# Altium schematic symbol library MCUs.SchLib: 48 symbols (part 1 of 3)
Pins are listed as number, name and electrical type; pins without a type are passive.

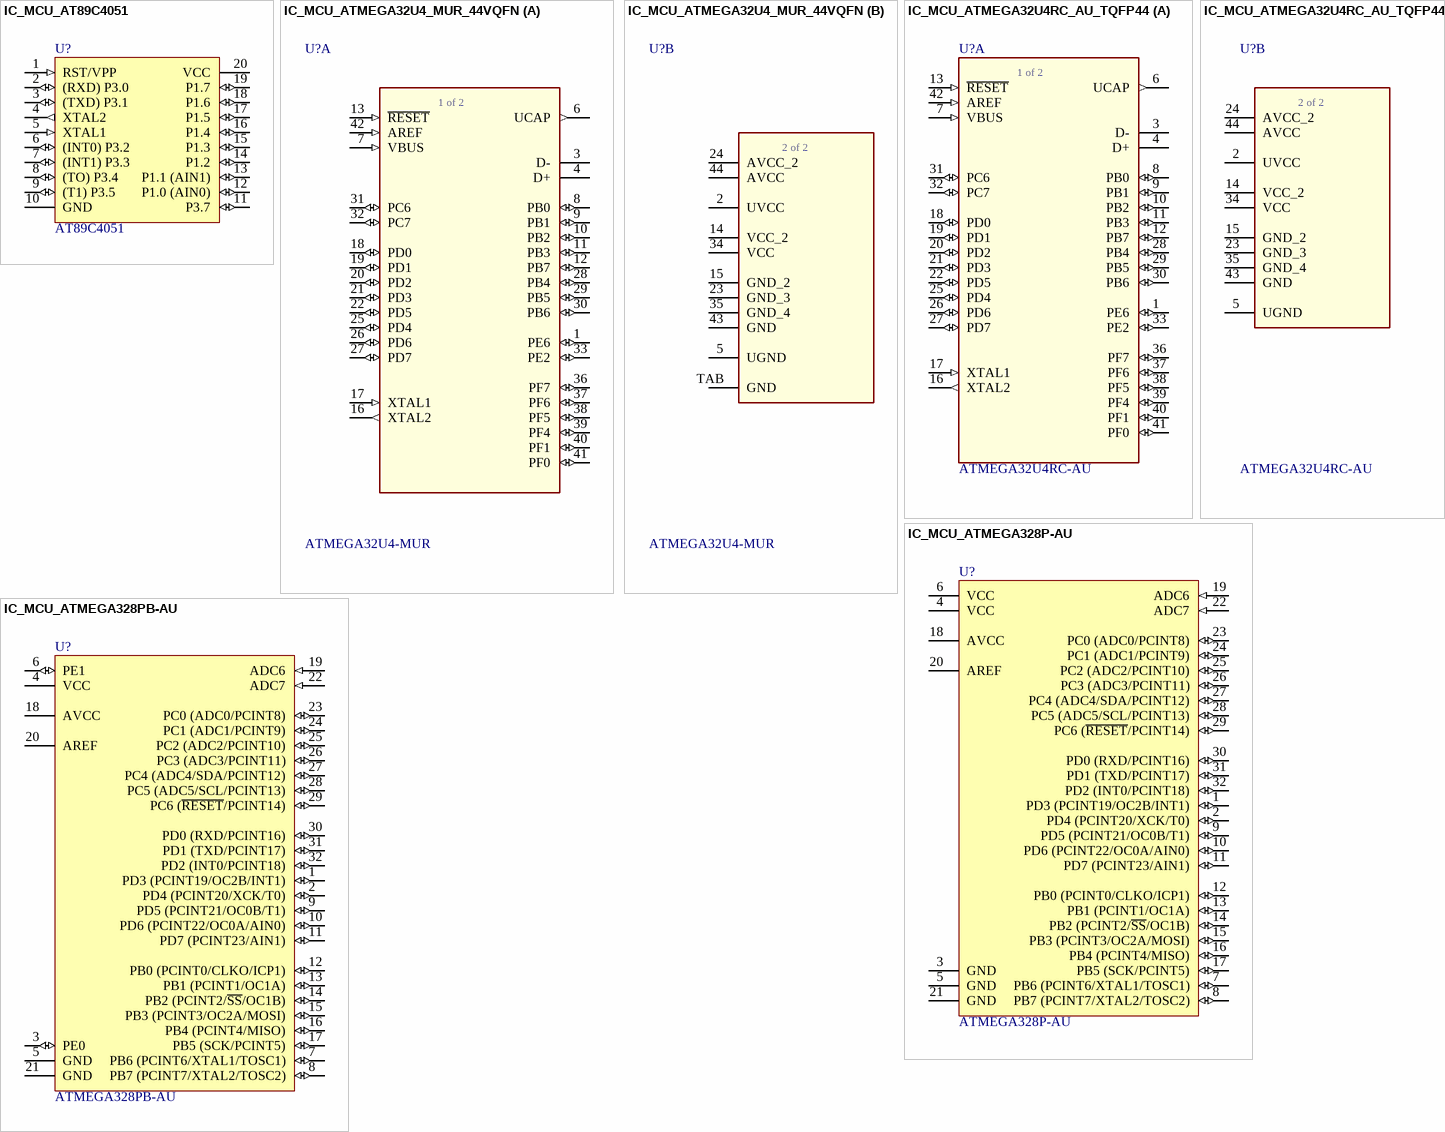
[diagram p0: symbols IC_MCU_AT89C4051 to IC_MCU_ATMEGA328PB-AU]

## IC_MCU_AT89C4051
designator U?, comment AT89C4051
IC MCU 8BIT 4KB FLASH 20SOIC; Manufacturer: Microchip Technology; Manufacturer Part Number: AT89C4051-24SU; Supplier 1: Digi-Key; Supplier Part Number 1: AT89C4051-24SU-ND; Reel Stock: N/A; Last modified by: J.Jaramillo; Last modified date: 20240310; ComponentLink1Description: Digi-Key; ComponentLink1URL: https://www.digikey.com/en/products/detail/microchip-technology/AT89C4051-24SU/1118883?s=N4IgTCBcDaIIIBUAcBOAwgFgAwFYCMAtGBgMoCqBAcgCIgC6AvkA
footprint SOIC_20_12.8X7.5MM (20-SOIC / 0190221 / H-D.Garcia)
pins: 1 RST/VPP (in), 2 (RXD) P3.0 (io), 3 (TXD) P3.1 (io), 4 XTAL2 (out), 5 XTAL1 (in), 6 (INT0) P3.2 (io), 7 (INT1) P3.3 (io), 8 (TO) P3.4 (io), 9 (T1) P3.5 (io), 10 GND (power), 11 P3.7 (io), 12 P1.0 (AIN0) (io), 13 P1.1 (AIN1) (io), 14 P1.2 (io), 15 P1.3 (io), 16 P1.4 (io), 17 P1.5 (io), 18 P1.6 (io), 19 P1.7 (io), 20 VCC (power)

## IC_MCU_ATMEGA32U4_MUR_44VQFN
designator U?, comment ATMEGA32U4-MUR
IC MCU 8BIT 32KB FLASH 44VQFN; Manufacturer: Microchip Technology; Manufacturer Part Number: ATMEGA32U4-MUR; Supplier 1: Digi-Key; Supplier Part Number 1: ATMEGA32U4-MURCT-ND; Reel Stock: N/A; Last modified by: J.Jaramillo; Last modified date: 20240310; ComponentLink1Description: Digi-key; ComponentLink1URL: https://www.digikey.com/en/products/detail/microchip-technology/ATMEGA32U4-MUR/2238242
footprint VQFN_44_7x7mm (44-VQFN  / 20230220 / N-A.Potosi)
part A pins: 1 PE6 (io), 3 D-, 4 D+, 6 UCAP (out), 7 VBUS (in), 8 PB0 (io), 9 PB1 (io), 10 PB2 (io), 11 PB3 (io), 12 PB7 (io), 13 ~{RESET} (in), 16 XTAL2 (out), 17 XTAL1 (in), 18 PD0 (io), 19 PD1 (io), 20 PD2 (io), 21 PD3 (io), 22 PD5 (io), 25 PD4 (io), 26 PD6 (io), 27 PD7 (io), 28 PB4 (io), 29 PB5 (io), 30 PB6 (io), 31 PC6 (io), 32 PC7 (io), 33 PE2 (io), 36 PF7 (io), 37 PF6 (io), 38 PF5 (io), 39 PF4 (io), 40 PF1 (io), 41 PF0 (io), 42 AREF (in)
part B pins: 2 UVCC (power), 5 UGND (power), 14 VCC_2 (power), 15 GND_2 (power), 23 GND_3 (power), 24 AVCC_2 (power), 34 VCC (power), 35 GND_4 (power), 43 GND (power), 44 AVCC (power), TAB GND
part A text: 1 of 2
part B text: 2 of 2

## IC_MCU_ATMEGA32U4RC_AU_TQFP44
designator U?, comment ATMEGA32U4RC-AU
IC MCU 8BIT 32KB FLASH 44TQFP; Manufacturer: Microchip Technology; Manufacturer Part Number: ATMEGA32U4RC-AU; Supplier 1: Digi-Key; Supplier Part Number 1: ATMEGA32U4RC-AU-ND; Reel Stock: N/A; Last modified by: J.Jaramillo; Last modified date: 20240310; ComponentLink1Description: Digi-key; ComponentLink1URL: https://www.digikey.com/en/products/detail/microchip-technology/ATMEGA32U4RC-AU/2507982
footprint TQFP_44_10X10MM (/20230220/N-A.Potosi)
part A pins: 1 PE6 (io), 3 D-, 4 D+, 6 UCAP (out), 7 VBUS (in), 8 PB0 (io), 9 PB1 (io), 10 PB2 (io), 11 PB3 (io), 12 PB7 (io), 13 ~{RESET} (in), 16 XTAL2 (out), 17 XTAL1 (in), 18 PD0 (io), 19 PD1 (io), 20 PD2 (io), 21 PD3 (io), 22 PD5 (io), 25 PD4 (io), 26 PD6 (io), 27 PD7 (io), 28 PB4 (io), 29 PB5 (io), 30 PB6 (io), 31 PC6 (io), 32 PC7 (io), 33 PE2 (io), 36 PF7 (io), 37 PF6 (io), 38 PF5 (io), 39 PF4 (io), 40 PF1 (io), 41 PF0 (io), 42 AREF (in)
part B pins: 2 UVCC (power), 5 UGND (power), 14 VCC_2 (power), 15 GND_2 (power), 23 GND_3 (power), 24 AVCC_2 (power), 34 VCC (power), 35 GND_4 (power), 43 GND (power), 44 AVCC (power)
part A text: 1 of 2
part B text: 2 of 2

## IC_MCU_ATMEGA328P-AU
designator U?, comment ATMEGA328P-AU
IC MCU 8BIT 32KB FLASH 32TQFP; Manufacturer: Microchip Technology; Manufacturer Part Number: ATMEGA328P-AU; Supplier 1: Digi-Key; Supplier Part Number 1: ATMEGA328P-AU-ND; Reel Stock: N/A; Last modified by: J.Jaramillo; Last modified date: 20240310; ComponentLink1Description: Digi-key; ComponentLink1URL: https://www.digikey.com/en/products/detail/microchip-technology/ATMEGA328P-AU/1832260
footprint TQFP_32_7x7mm (32-TQFP / 20210211 / C-D Viveros)
pins: 1 PD3 (PCINT19/OC2B/INT1) (io), 2 PD4 (PCINT20/XCK/T0) (io), 3 GND (power), 4 VCC (power), 5 GND (power), 6 VCC (power), 7 PB6 (PCINT6/XTAL1/TOSC1) (io), 8 PB7 (PCINT7/XTAL2/TOSC2) (io), 9 PD5 (PCINT21/OC0B/T1) (io), 10 PD6 (PCINT22/OC0A/AIN0) (io), 11 PD7 (PCINT23/AIN1) (io), 12 PB0 (PCINT0/CLKO/ICP1) (io), 13 PB1 (PCINT1/OC1A) (io), 14 PB2 (PCINT2/~{SS}/OC1B) (io), 15 PB3 (PCINT3/OC2A/MOSI) (io), 16 PB4 (PCINT4/MISO) (io), 17 PB5 (SCK/PCINT5) (io), 18 AVCC (power), 19 ADC6 (in), 20 AREF, 21 GND (power), 22 ADC7 (in), 23 PC0 (ADC0/PCINT8) (io), 24 PC1 (ADC1/PCINT9) (io), 25 PC2 (ADC2/PCINT10) (io), 26 PC3 (ADC3/PCINT11) (io), 27 PC4 (ADC4/SDA/PCINT12) (io), 28 PC5 (ADC5/SCL/PCINT13) (io), 29 PC6 (~{RESET}/PCINT14) (io), 30 PD0 (RXD/PCINT16) (io), 31 PD1 (TXD/PCINT17) (io), 32 PD2 (INT0/PCINT18) (io)

## IC_MCU_ATMEGA328PB-AU
designator U?, comment ATMEGA328PB-AU
IC MCU 8BIT 32KB FLASH 32TQFP; Manufacturer: Microchip Technology; Manufacturer Part Number: ATMEGA328PB-AU; Supplier 1: Digi-Key; Supplier Part Number 1: ATMEGA328PB-AU-ND; Reel Stock: N/A; Last modified by: J.Jaramillo; Last modified date: 20240310; ComponentLink1Description: Digi-key; ComponentLink1URL: https://www.digikey.com/en/products/detail/microchip-technology/ATMEGA328PB-AU/5638812
footprint TQFP_32_7x7mm (32-TQFP / 20210211 / C-D Viveros)
pins: 1 PD3 (PCINT19/OC2B/INT1) (io), 2 PD4 (PCINT20/XCK/T0) (io), 3 PE0 (io), 4 VCC (power), 5 GND (power), 6 PE1 (io), 7 PB6 (PCINT6/XTAL1/TOSC1) (io), 8 PB7 (PCINT7/XTAL2/TOSC2) (io), 9 PD5 (PCINT21/OC0B/T1) (io), 10 PD6 (PCINT22/OC0A/AIN0) (io), 11 PD7 (PCINT23/AIN1) (io), 12 PB0 (PCINT0/CLKO/ICP1) (io), 13 PB1 (PCINT1/OC1A) (io), 14 PB2 (PCINT2/~{SS}/OC1B) (io), 15 PB3 (PCINT3/OC2A/MOSI) (io), 16 PB4 (PCINT4/MISO) (io), 17 PB5 (SCK/PCINT5) (io), 18 AVCC (power), 19 ADC6 (in), 20 AREF, 21 GND (power), 22 ADC7 (in), 23 PC0 (ADC0/PCINT8) (io), 24 PC1 (ADC1/PCINT9) (io), 25 PC2 (ADC2/PCINT10) (io), 26 PC3 (ADC3/PCINT11) (io), 27 PC4 (ADC4/SDA/PCINT12) (io), 28 PC5 (ADC5/SCL/PCINT13) (io), 29 PC6 (~{RESET}/PCINT14) (io), 30 PD0 (RXD/PCINT16) (io), 31 PD1 (TXD/PCINT17) (io), 32 PD2 (INT0/PCINT18) (io)

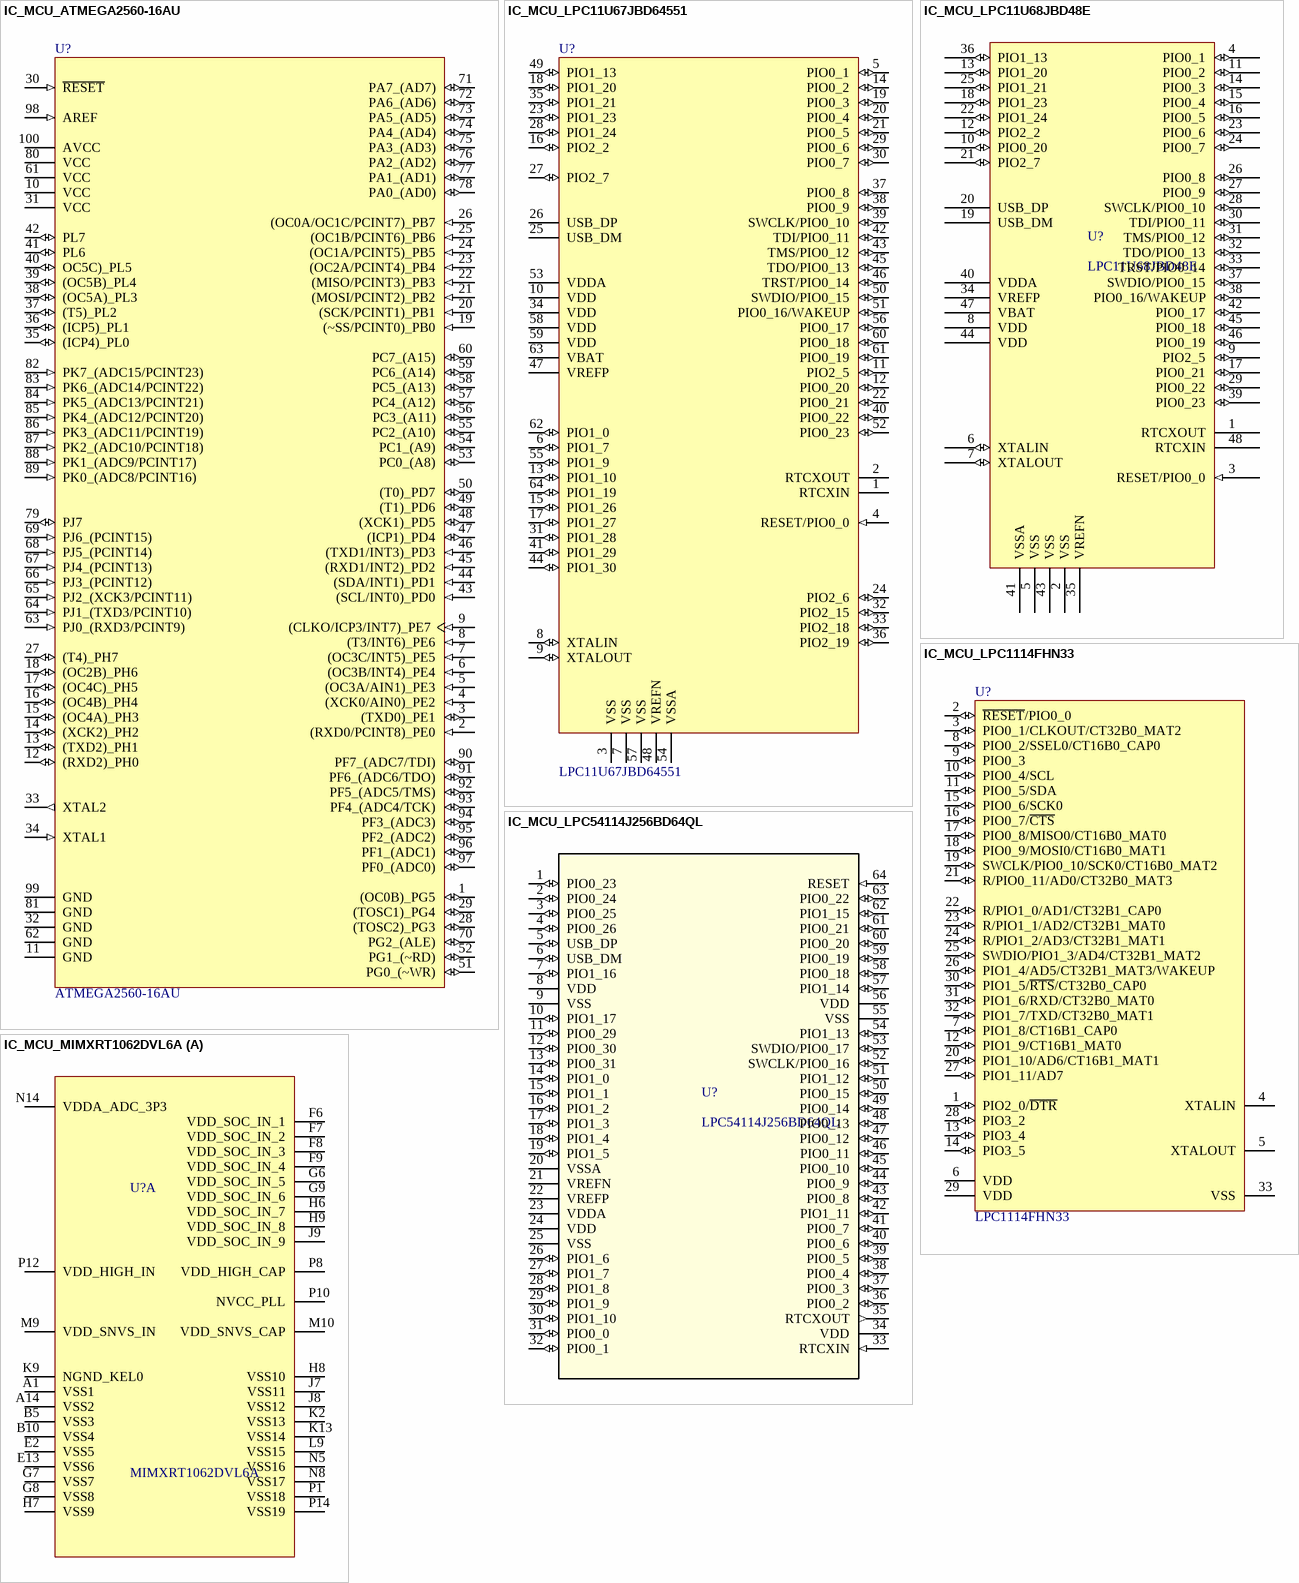
[diagram p1: symbols IC_MCU_ATMEGA2560-16AU to IC_MCU_MIMXRT1062DVL6A]

## IC_MCU_ATMEGA2560-16AU
designator U?, comment ATMEGA2560-16AU
IC MCU 8BIT 256KB FLASH 100TQFP; Manufacturer: Microchip Technology; Manufacturer Part Number: ATMEGA2560-16AU; Supplier 1: Digi-Key; Supplier Part Number 1: ATMEGA2560-16AU-ND; Reel Stock: N/A; Last modified by: J.Jaramillo; Last modified date: 20240310; ComponentLink1Description: Digi-Key; ComponentLink1URL: https://www.digikey.com/en/products/detail/microchip-technology/atmega2560-16au/735455
footprint LQFP_100_14x14mm (100-LQFP / 20210511 / M-C.Calderon)
pins: 1 (OC0B)_PG5 (io), 2 (RXD0/PCINT8)_PE0 (in), 3 (TXD0)_PE1 (io), 4 (XCK0/AIN0)_PE2 (in), 5 (OC3A/AIN1)_PE3 (in), 6 (OC3B/INT4)_PE4 (in), 7 (OC3C/INT5)_PE5 (in), 8 (T3/INT6)_PE6 (in), 9 (CLKO/ICP3/INT7)_PE7 (in), 10 VCC (power), 11 GND (power), 12 (RXD2)_PH0 (io), 13 (TXD2)_PH1 (io), 14 (XCK2)_PH2 (io), 15 (OC4A)_PH3 (io), 16 (OC4B)_PH4 (io), 17 (OC4C)_PH5 (io), 18 (OC2B)_PH6 (io), 19 (~SS/PCINT0)_PB0 (in), 20 (SCK/PCINT1)_PB1 (in), 21 (MOSI/PCINT2)_PB2 (in), 22 (MISO/PCINT3)_PB3 (in), 23 (OC2A/PCINT4)_PB4 (in), 24 (OC1A/PCINT5)_PB5 (in), 25 (OC1B/PCINT6)_PB6 (in), 26 (OC0A/OC1C/PCINT7)_PB7 (in), 27 (T4)_PH7 (io), 28 (TOSC2)_PG3 (io), 29 (TOSC1)_PG4 (io), 30 ~{RESET} (in), 31 VCC (power), 32 GND (power), 33 XTAL2 (out), 34 XTAL1 (in), 35 (ICP4)_PL0 (io), 36 (ICP5)_PL1 (io), 37 (T5)_PL2 (io), 38 (OC5A)_PL3 (io), 39 (OC5B)_PL4 (io), 40 OC5C)_PL5 (io), 41 PL6 (io), 42 PL7 (io), 43 (SCL/INT0)_PD0 (in), 44 (SDA/INT1)_PD1 (in), 45 (RXD1/INT2)_PD2 (in), 46 (TXD1/INT3)_PD3 (in), 47 (ICP1)_PD4 (io), 48 (XCK1)_PD5 (io), 49 (T1)_PD6 (io), 50 (T0)_PD7 (io), 51 PG0_(~WR) (io), 52 PG1_(~RD) (io), 53 PC0_(A8) (io), 54 PC1_(A9) (io), 55 PC2_(A10) (io), 56 PC3_(A11) (io), 57 PC4_(A12) (io), 58 PC5_(A13) (io), 59 PC6_(A14) (io), 60 PC7_(A15) (io), 61 VCC (power), 62 GND (power), 63 PJ0_(RXD3/PCINT9) (in), 64 PJ1_(TXD3/PCINT10) (in), 65 PJ2_(XCK3/PCINT11) (in), 66 PJ3_(PCINT12) (in), 67 PJ4_(PCINT13) (in), 68 PJ5_(PCINT14) (in), 69 PJ6_(PCINT15) (in), 70 PG2_(ALE) (io), 71 PA7_(AD7) (io), 72 PA6_(AD6) (io), 73 PA5_(AD5) (io), 74 PA4_(AD4) (io), 75 PA3_(AD3) (io), 76 PA2_(AD2) (io), 77 PA1_(AD1) (io), 78 PA0_(AD0) (io), 79 PJ7 (io), 80 VCC (power), 81 GND (power), 82 PK7_(ADC15/PCINT23) (in), 83 PK6_(ADC14/PCINT22) (in), 84 PK5_(ADC13/PCINT21) (in), 85 PK4_(ADC12/PCINT20) (in), 86 PK3_(ADC11/PCINT19) (in), 87 PK2_(ADC10/PCINT18) (in), 88 PK1_(ADC9/PCINT17) (in), 89 PK0_(ADC8/PCINT16) (in), 90 PF7_(ADC7/TDI) (io), 91 PF6_(ADC6/TDO) (io), 92 PF5_(ADC5/TMS) (io), 93 PF4_(ADC4/TCK) (io), 94 PF3_(ADC3) (io), 95 PF2_(ADC2) (io), 96 PF1_(ADC1) (io), 97 PF0_(ADC0) (io), 98 AREF (in), 99 GND (power), 100 AVCC (power)

## IC_MCU_LPC11U67JBD64551
designator U?, comment LPC11U67JBD64551
IC MCU 32BIT 128KB FLASH 64LQFP; Manufacturer: NXP USA Inc.; Manufacturer Part Number: LPC11U67JBD64551; Supplier 1: Digi-Key; Supplier Part Number 1: 2156-LPC11U67JBD64551-ND; Reel Stock: N/A; Last modified by: J.Jaramillo; Last modified date: 20240310; ComponentLink1Description: Digi-Key; ComponentLink1URL: https://www.digikey.com/en/products/detail/nxp-usa-inc/LPC11U67JBD64551/13504064?s=N4IgTCBcDaIDIAUDCBGFBVAbAdgFICEARTAFgFYyUQBdAXyA
footprint LQFP_64_10x10mm (64-LQFP / 20190221 / H-D.Garcia)
pins: 1 RTCXIN, 2 RTCXOUT, 3 VSS, 4 RESET/PIO0_0 (in), 5 PIO0_1 (io), 6 PIO1_7 (io), 7 VSS, 8 XTALIN (io), 9 XTALOUT (io), 10 VDD, 11 PIO2_5 (io), 12 PIO0_20 (io), 13 PIO1_10 (io), 14 PIO0_2 (io), 15 PIO1_26 (io), 16 PIO2_2 (io), 17 PIO1_27 (io), 18 PIO1_20 (io), 19 PIO0_3 (io), 20 PIO0_4 (io), 21 PIO0_5 (io), 22 PIO0_21 (io), 23 PIO1_23 (io), 24 PIO2_6 (io), 25 USB_DM, 26 USB_DP, 27 PIO2_7 (io), 28 PIO1_24 (io), 29 PIO0_6 (io), 30 PIO0_7 (io), 31 PIO1_28 (io), 32 PIO2_15 (io), 33 PIO2_18 (io), 34 VDD, 35 PIO1_21 (io), 36 PIO2_19 (io), 37 PIO0_8 (io), 38 PIO0_9 (io), 39 SWCLK/PIO0_10 (io), 40 PIO0_22 (io), 41 PIO1_29 (io), 42 TDI/PIO0_11 (io), 43 TMS/PIO0_12 (io), 44 PIO1_30 (io), 45 TDO/PIO0_13 (io), 46 TRST/PIO0_14 (io), 47 VREFP, 48 VREFN, 49 PIO1_13 (io), 50 SWDIO/PIO0_15 (io), 51 PIO0_16/WAKEUP (io), 52 PIO0_23 (io), 53 VDDA, 54 VSSA, 55 PIO1_9 (io), 56 PIO0_17 (io), 57 VSS, 58 VDD, 59 VDD, 60 PIO0_18 (io), 61 PIO0_19 (io), 62 PIO1_0 (io), 63 VBAT, 64 PIO1_19 (io)

## IC_MCU_LPC11U68JBD48E
designator U?, comment LPC11U68JBD48E
IC MCU 32BIT 256KB FLASH 48LQFP; Manufacturer: NXP USA Inc.; Manufacturer Part Number: LPC11U68JBD48E; Supplier 1: Digi-Key; Supplier Part Number 1: 568-12508-ND; Reel Stock: N/A; Last modified by: J.Jaramillo; Last modified date: 20240310; ComponentLink1Description: Digi-Key; ComponentLink1URL: https://www.digikey.com/products/en?keywords=LPC11U68JBD48
footprint LQFP_48_7x7mm_L (48-LQFP / 20191121 / M-X.Arias)
pins: 1 RTCXOUT, 2 VSS, 3 RESET/PIO0_0 (in), 4 PIO0_1 (io), 5 VSS, 6 XTALIN (io), 7 XTALOUT (io), 8 VDD, 9 PIO2_5 (io), 10 PIO0_20 (io), 11 PIO0_2 (io), 12 PIO2_2 (io), 13 PIO1_20 (io), 14 PIO0_3 (io), 15 PIO0_4 (io), 16 PIO0_5 (io), 17 PIO0_21 (io), 18 PIO1_23 (io), 19 USB_DM, 20 USB_DP, 21 PIO2_7 (io), 22 PIO1_24 (io), 23 PIO0_6 (io), 24 PIO0_7 (io), 25 PIO1_21 (io), 26 PIO0_8 (io), 27 PIO0_9 (io), 28 SWCLK/PIO0_10 (io), 29 PIO0_22 (io), 30 TDI/PIO0_11 (io), 31 TMS/PIO0_12 (io), 32 TDO/PIO0_13 (io), 33 TRST/PIO0_14 (io), 34 VREFP, 35 VREFN, 36 PIO1_13 (io), 37 SWDIO/PIO0_15 (io), 38 PIO0_16/WAKEUP (io), 39 PIO0_23 (io), 40 VDDA, 41 VSSA, 42 PIO0_17 (io), 43 VSS, 44 VDD, 45 PIO0_18 (io), 46 PIO0_19 (io), 47 VBAT, 48 RTCXIN

## IC_MCU_LPC1114FHN33
designator U?, comment LPC1114FHN33
IC MCU 32BIT 32KB FLASH 32HVQFN; Manufacturer: NXP USA Inc.; Manufacturer Part Number: LPC1114FHN33/302K; Supplier 1: Digi-Key; Supplier Part Number 1: 568-LPC1114FHN33/302K-ND; Reel Stock: N/A; Last modified by: J.Jaramillo; Last modified date: 20240310; ComponentLink1Description: Digi-Key; ComponentLink1URL: https://www.digikey.com/en/products/detail/nxp-usa-inc/LPC1114FHN33-302K/13540919
footprint VQFN_32_7x7mm (32-HVQFN  / 20191004 / M-X.Arias)
pins: 1 PIO2_0/~{DTR} (io), 2 ~{RESET}/PIO0_0 (io), 3 PIO0_1/CLKOUT/CT32B0_MAT2 (io), 4 XTALIN, 5 XTALOUT, 6 VDD (power), 7 PIO1_8/CT16B1_CAP0 (io), 8 PIO0_2/SSEL0/CT16B0_CAP0 (io), 9 PIO0_3 (io), 10 PIO0_4/SCL (io), 11 PIO0_5/SDA (io), 12 PIO1_9/CT16B1_MAT0 (io), 13 PIO3_4 (io), 14 PIO3_5 (io), 15 PIO0_6/SCK0 (io), 16 PIO0_7/~{CTS} (io), 17 PIO0_8/MISO0/CT16B0_MAT0 (io), 18 PIO0_9/MOSI0/CT16B0_MAT1 (io), 19 SWCLK/PIO0_10/SCK0/CT16B0_MAT2 (io), 20 PIO1_10/AD6/CT16B1_MAT1 (io), 21 R/PIO0_11/AD0/CT32B0_MAT3 (io), 22 R/PIO1_0/AD1/CT32B1_CAP0 (io), 23 R/PIO1_1/AD2/CT32B1_MAT0 (io), 24 R/PIO1_2/AD3/CT32B1_MAT1 (io), 25 SWDIO/PIO1_3/AD4/CT32B1_MAT2 (io), 26 PIO1_4/AD5/CT32B1_MAT3/WAKEUP (io), 27 PIO1_11/AD7 (io), 28 PIO3_2 (io), 29 VDD (power), 30 PIO1_5/~{RTS}/CT32B0_CAP0 (io), 31 PIO1_6/RXD/CT32B0_MAT0 (io), 32 PIO1_7/TXD/CT32B0_MAT1 (io), 33 VSS (power)

## IC_MCU_LPC54114J256BD64QL
designator U?, comment LPC54114J256BD64QL
IC MCU 32BIT 256KB FLASH 64LQFP; Manufacturer: NXP USA Inc.; Manufacturer Part Number: LPC54114J256BD64QL; Supplier 1: Digi-Key; Supplier Part Number 1: 568-13034-ND; Reel Stock: N/A; Last modified by: J.Jaramillo; Last modified date: 20240310; ComponentLink1Description: Digi-Key; ComponentLink1URL: https://www.digikey.com/en/products/detail/nxp-usa-inc/LPC54114J256BD64QL/5981474?s=N4IgTCBcDaIDIAUDCBWALARg2gUmFAbAEIAiBaAinCALoC%2BQA
footprint LQFP_64_10x10mm (64-LQFP / 20211216 / C-E.Rincon)
pins: 1 PIO0_23 (io), 2 PIO0_24 (io), 3 PIO0_25 (io), 4 PIO0_26 (io), 5 USB_DP (io), 6 USB_DM (io), 7 PIO1_16 (io), 8 VDD (power), 9 VSS (power), 10 PIO1_17 (io), 11 PIO0_29 (io), 12 PIO0_30 (io), 13 PIO0_31 (io), 14 PIO1_0 (io), 15 PIO1_1 (io), 16 PIO1_2 (io), 17 PIO1_3 (io), 18 PIO1_4 (io), 19 PIO1_5 (io), 20 VSSA (power), 21 VREFN (power), 22 VREFP (power), 23 VDDA (power), 24 VDD (power), 25 VSS (power), 26 PIO1_6 (io), 27 PIO1_7 (io), 28 PIO1_8 (io), 29 PIO1_9 (io), 30 PIO1_10 (io), 31 PIO0_0 (io), 32 PIO0_1 (io), 33 RTCXIN (in), 34 VDD (power), 35 RTCXOUT (out), 36 PIO0_2 (io), 37 PIO0_3 (io), 38 PIO0_4 (io), 39 PIO0_5 (io), 40 PIO0_6 (io), 41 PIO0_7 (io), 42 PIO1_11 (io), 43 PIO0_8 (io), 44 PIO0_9 (io), 45 PIO0_10 (io), 46 PIO0_11 (io), 47 PIO0_12 (io), 48 PIO0_13 (io), 49 PIO0_14 (io), 50 PIO0_15 (io), 51 PIO1_12 (io), 52 SWCLK/PIO0_16 (io), 53 SWDIO/PIO0_17 (io), 54 PIO1_13 (io), 55 VSS (power), 56 VDD (power), 57 PIO1_14 (io), 58 PIO0_18 (io), 59 PIO0_19 (io), 60 PIO0_20 (io), 61 PIO0_21 (io), 62 PIO1_15 (io), 63 PIO0_22 (io), 64 RESET (in)

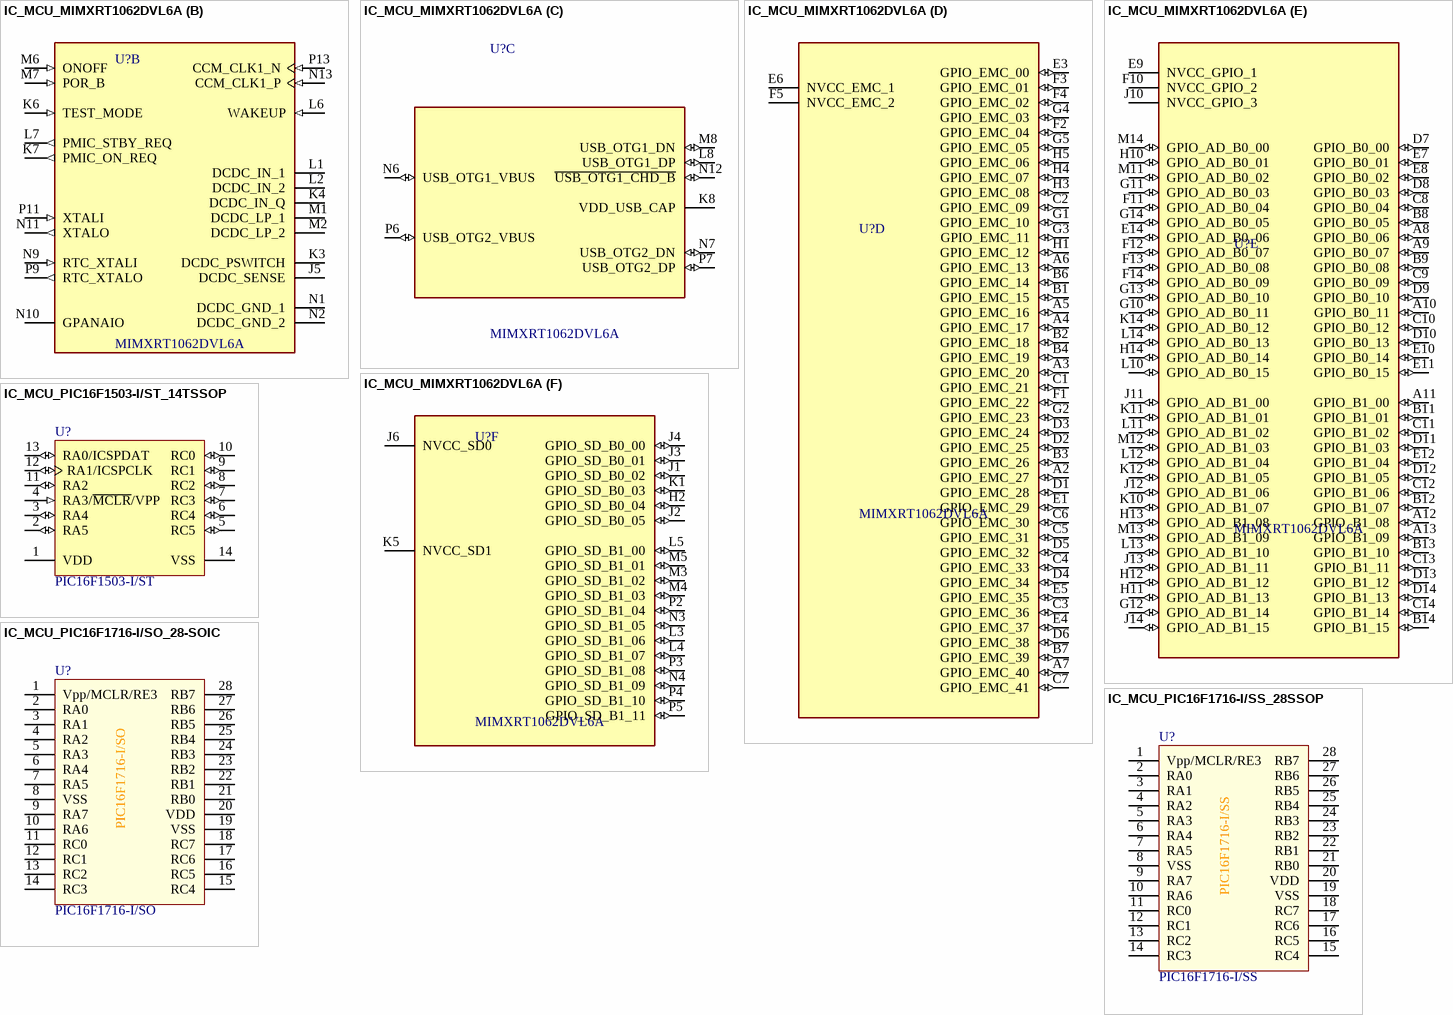
[diagram p2: symbols IC_MCU_MIMXRT1062DVL6A to IC_MCU_PIC16F1716-I/SS_28SSOP]

## IC_MCU_MIMXRT1062DVL6A
designator U?, comment MIMXRT1062DVL6A
IC MCU 32BIT EXT MEM 196MAPBGA; Manufacturer: NXP USA Inc.; Manufacturer Part Number: MIMXRT1062DVL6A; Supplier 1: Digi-Key; Supplier Part Number 1: 568-14668-ND; Reel Stock: N/A; Last modified by: J.Jaramillo; Last modified date: 20240310; ComponentLink1Description: Digi-Key; ComponentLink1URL: https://www.digikey.com/en/products/detail/nxp-usa-inc/MIMXRT1062DVL6A/9607560?s=N4IgTCBcDaILIEk4A0BKAVAjABgGxgBEA1AGVwEEQBdAXyA
footprint LFBGA_196_10X10MM (20230731/ N-A.Potosi)
part A pins: A1 VSS1 (power), A14 VSS2 (power), B5 VSS3 (power), B10 VSS4 (power), E2 VSS5 (power), E13 VSS6 (power), F6 VDD_SOC_IN_1 (power), F7 VDD_SOC_IN_2 (power), F8 VDD_SOC_IN_3 (power), F9 VDD_SOC_IN_4 (power), G6 VDD_SOC_IN_5 (power), G7 VSS7 (power), G8 VSS8 (power), G9 VDD_SOC_IN_6 (power), H6 VDD_SOC_IN_7 (power), H7 VSS9 (power), H8 VSS10 (power), H9 VDD_SOC_IN_8 (power), J7 VSS11 (power), J8 VSS12 (power), J9 VDD_SOC_IN_9 (power), K2 VSS13 (power), K9 NGND_KEL0 (power), K13 VSS14 (power), L9 VSS15 (power), M9 VDD_SNVS_IN (power), M10 VDD_SNVS_CAP (power), N5 VSS16 (power), N8 VSS17 (power), N14 VDDA_ADC_3P3 (power), P1 VSS18 (power), P8 VDD_HIGH_CAP (power), P10 NVCC_PLL (power), P12 VDD_HIGH_IN (power), P14 VSS19 (power)
part B pins: J5 DCDC_SENSE (power), K3 DCDC_PSWITCH (power), K4 DCDC_IN_Q (power), K6 TEST_MODE (in), K7 PMIC_ON_REQ (out), L1 DCDC_IN_1 (power), L2 DCDC_IN_2 (power), L6 WAKEUP (in), L7 PMIC_STBY_REQ (out), M1 DCDC_LP_1 (power), M2 DCDC_LP_2 (power), M6 ONOFF (in), M7 POR_B (in), N1 DCDC_GND_1 (power), N2 DCDC_GND_2 (power), N9 RTC_XTALI (in), N10 GPANAIO (power), N11 XTALO (out), N13 CCM_CLK1_P (in), P9 RTC_XTALO (out), P11 XTALI (in), P13 CCM_CLK1_N (in)
part C pins: K8 VDD_USB_CAP (power), L8 USB_OTG1_DP (io), M8 USB_OTG1_DN (io), N6 USB_OTG1_VBUS (io), N7 USB_OTG2_DN (io), N12 ~{USB_OTG1_CHD_B} (io), P6 USB_OTG2_VBUS (io), P7 USB_OTG2_DP (io)
part D pins: A2 GPIO_EMC_27 (io), A3 GPIO_EMC_20 (io), A4 GPIO_EMC_17 (io), A5 GPIO_EMC_16 (io), A6 GPIO_EMC_13 (io), A7 GPIO_EMC_40 (io), B1 GPIO_EMC_15 (io), B2 GPIO_EMC_18 (io), B3 GPIO_EMC_26 (io), B4 GPIO_EMC_19 (io), B6 GPIO_EMC_14 (io), B7 GPIO_EMC_39 (io), C1 GPIO_EMC_21 (io), C2 GPIO_EMC_09 (io), C3 GPIO_EMC_36 (io), C4 GPIO_EMC_33 (io), C5 GPIO_EMC_31 (io), C6 GPIO_EMC_30 (io), C7 GPIO_EMC_41 (io), D1 GPIO_EMC_28 (io), D2 GPIO_EMC_25 (io), D3 GPIO_EMC_24 (io), D4 GPIO_EMC_34 (io), D5 GPIO_EMC_32 (io), D6 GPIO_EMC_38 (io), E1 GPIO_EMC_29 (io), E3 GPIO_EMC_00 (io), E4 GPIO_EMC_37 (io), E5 GPIO_EMC_35 (io), E6 NVCC_EMC_1 (power), F1 GPIO_EMC_22 (io), F2 GPIO_EMC_04 (io), F3 GPIO_EMC_01 (io), F4 GPIO_EMC_02 (io), F5 NVCC_EMC_2 (power), G1 GPIO_EMC_10 (io), G2 GPIO_EMC_23 (io), G3 GPIO_EMC_11 (io), G4 GPIO_EMC_03 (io), G5 GPIO_EMC_05 (io), H1 GPIO_EMC_12 (io), H3 GPIO_EMC_08 (io), H4 GPIO_EMC_07 (io), H5 GPIO_EMC_06 (io)
part E pins: A8 GPIO_B0_06 (io), A9 GPIO_B0_07 (io), A10 GPIO_B0_11 (io), A11 GPIO_B1_00 (io), A12 GPIO_B1_08 (io), A13 GPIO_B1_09 (io), B8 GPIO_B0_05 (io), B9 GPIO_B0_08 (io), B11 GPIO_B1_01 (io), B12 GPIO_B1_07 (io), B13 GPIO_B1_10 (io), B14 GPIO_B1_15 (io), C8 GPIO_B0_04 (io), C9 GPIO_B0_09 (io), C10 GPIO_B0_12 (io), C11 GPIO_B1_02 (io), C12 GPIO_B1_06 (io), C13 GPIO_B1_11 (io), C14 GPIO_B1_14 (io), D7 GPIO_B0_00 (io), D8 GPIO_B0_03 (io), D9 GPIO_B0_10 (io), D10 GPIO_B0_13 (io), D11 GPIO_B1_03 (io), D12 GPIO_B1_05 (io), D13 GPIO_B1_12 (io), D14 GPIO_B1_13 (io), E7 GPIO_B0_01 (io), E8 GPIO_B0_02 (io), E9 NVCC_GPIO_1 (power), E10 GPIO_B0_14 (io), E11 GPIO_B0_15 (io), E12 GPIO_B1_04 (io), E14 GPIO_AD_B0_06 (io), F10 NVCC_GPIO_2 (power), F11 GPIO_AD_B0_04 (io), F12 GPIO_AD_B0_07 (io), F13 GPIO_AD_B0_08 (io), F14 GPIO_AD_B0_09 (io), G10 GPIO_AD_B0_11 (io), G11 GPIO_AD_B0_03 (io), G12 GPIO_AD_B1_14 (io), G13 GPIO_AD_B0_10 (io), G14 GPIO_AD_B0_05 (io), H10 GPIO_AD_B0_01 (io), H11 GPIO_AD_B1_13 (io), H12 GPIO_AD_B1_12 (io), H13 GPIO_AD_B1_08 (io), H14 GPIO_AD_B0_14 (io), J10 NVCC_GPIO_3 (power), J11 GPIO_AD_B1_00 (io), J12 GPIO_AD_B1_06 (io), J13 GPIO_AD_B1_11 (io), J14 GPIO_AD_B1_15 (io), K10 GPIO_AD_B1_07 (io), K11 GPIO_AD_B1_01 (io), K12 GPIO_AD_B1_05 (io), K14 GPIO_AD_B0_12 (io), L10 GPIO_AD_B0_15 (io), L11 GPIO_AD_B1_02 (io), L12 GPIO_AD_B1_04 (io), L13 GPIO_AD_B1_10 (io), L14 GPIO_AD_B0_13 (io), M11 GPIO_AD_B0_02 (io), M12 GPIO_AD_B1_03 (io), M13 GPIO_AD_B1_09 (io), M14 GPIO_AD_B0_00 (io)
part F pins: H2 GPIO_SD_B0_04 (io), J1 GPIO_SD_B0_02 (io), J2 GPIO_SD_B0_05 (io), J3 GPIO_SD_B0_01 (io), J4 GPIO_SD_B0_00 (io), J6 NVCC_SD0 (power), K1 GPIO_SD_B0_03 (io), K5 NVCC_SD1 (power), L3 GPIO_SD_B1_06 (io), L4 GPIO_SD_B1_07 (io), L5 GPIO_SD_B1_00 (io), M3 GPIO_SD_B1_02 (io), M4 GPIO_SD_B1_03 (io), M5 GPIO_SD_B1_01 (io), N3 GPIO_SD_B1_05 (io), N4 GPIO_SD_B1_09 (io), P2 GPIO_SD_B1_04 (io), P3 GPIO_SD_B1_08 (io), P4 GPIO_SD_B1_10 (io), P5 GPIO_SD_B1_11 (io)

## IC_MCU_PIC16F1503-I/ST_14TSSOP
designator U?, comment PIC16F1503-I/ST
IC MCU 8BIT 3.5KB FLASH 14TSSOP; Manufacturer: Microchip Technology; Manufacturer Part Number: PIC16F1503-I/ST; Supplier 1: Digi-Key; Supplier Part Number 1: PIC16F1503-I/ST-ND; Reel Stock: N/A; Last modified by: J.Jaramillo; Last modified date: 20240310; ComponentLink1Description: Digi-Key; ComponentLink1URL: https://www.digikey.com/en/products/detail/microchip-technology/PIC16F1503-I-ST/2772042?s=N4IgTCBcDaIAoEkDCBGAbAMRQVgAwGYBaBAegGUAVQgOQBEQBdAXyA
footprint TSSOP_14_4.4MM (/ 20210511 / J-E.Pachon)
pins: 1 VDD (power) "Positive supply", 2 RA5 (io), 3 RA4 (io), 4 RA3/~{MCLR}/VPP (in), 5 RC5 (io), 6 RC4 (io), 7 RC3 (io), 8 RC2 (io), 9 RC1 (io), 10 RC0 (io), 11 RA2 (io), 12 RA1/ICSPCLK (io), 13 RA0/ICSPDAT (io), 14 VSS (power) "Ground reference."

## IC_MCU_PIC16F1716-I/SO_28-SOIC
designator U?, comment PIC16F1716-I/SO
IC MCU 8BIT 14KB FLASH 28SOIC; Manufacturer: Microchip Technology; Manufacturer Part Number: PIC16F1716-I/SO; Supplier 1: Digi-key; Supplier Part Number 1: PIC16F1716-I/SO-ND; Reel Stock: N/A; Last modified by: J.Jaramillo; Last modified date: 20240310; ComponentLink1Description: Digi-key; ComponentLink1URL: https://www.digikey.com/en/products/detail/microchip-technology/PIC16F1716-I-SO/4439870?s=N4IgTCBcDaIAoEkDCBGAbAMRQdnQWgQHoBlAeTwDkAREAXQF8g
footprint SOIC_28_7.5MM (28-SOIC/ 20210427/ C-E. Rincon)
pins: 1 Vpp/MCLR/RE3, 2 RA0, 3 RA1, 4 RA2, 5 RA3, 6 RA4, 7 RA5, 8 VSS, 9 RA7, 10 RA6, 11 RC0, 12 RC1, 13 RC2, 14 RC3, 15 RC4, 16 RC5, 17 RC6, 18 RC7, 19 VSS, 20 VDD, 21 RB0, 22 RB1, 23 RB2, 24 RB3, 25 RB4, 26 RB5, 27 RB6, 28 RB7

## IC_MCU_PIC16F1716-I/SS_28SSOP
designator U?, comment PIC16F1716-I/SS
IC MCU 8BIT 14KB FLASH 28SSOP; Manufacturer: Microchip Technology; Manufacturer Part Number: PIC16F1716-I/SS; Supplier 1: Digi-key; Supplier Part Number 1: PIC16F1716-I/SS-ND; Reel Stock: N/A; Last modified by: J.Jaramillo; Last modified date: 20240310; ComponentLink1Description: Digi-key; ComponentLink1URL: https://www.digikey.com/products/en?keywords=PIC16F1716-I%2FSS-ND
footprint SSOP_28_5.3mm (/ 20190225 / C-A.Serna.A)
pins: 1 Vpp/MCLR/RE3, 2 RA0, 3 RA1, 4 RA2, 5 RA3, 6 RA4, 7 RA5, 8 VSS, 9 RA7, 10 RA6, 11 RC0, 12 RC1, 13 RC2, 14 RC3, 15 RC4, 16 RC5, 17 RC6, 18 RC7, 19 VSS, 20 VDD, 21 RB0, 22 RB1, 23 RB2, 24 RB3, 25 RB4, 26 RB5, 27 RB6, 28 RB7

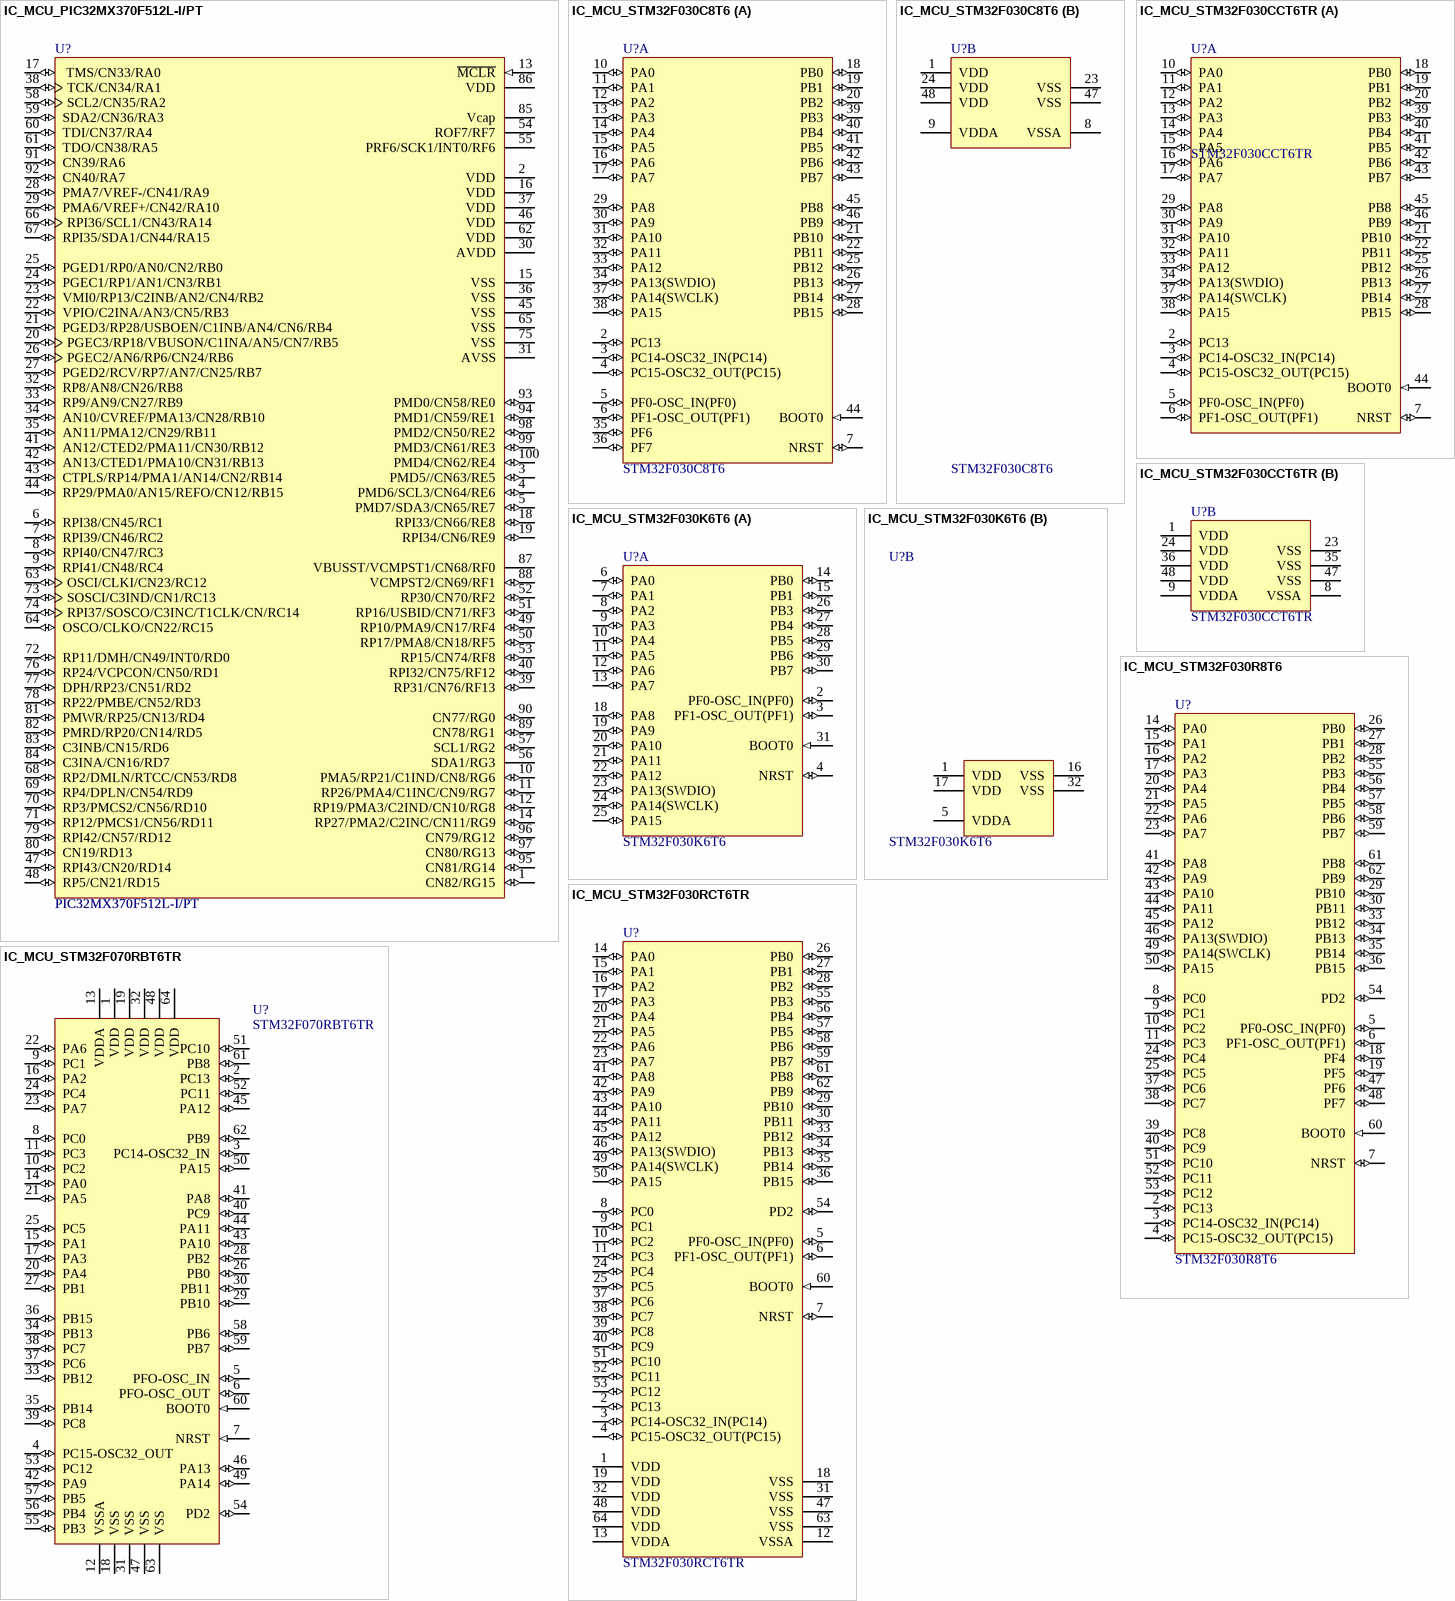
[diagram p3: symbols IC_MCU_PIC32MX370F512L-I/PT to IC_MCU_STM32F070RBT6TR]

## IC_MCU_PIC32MX370F512L-I/PT
designator U?, comment PIC32MX370F512L-I/PT
IC MCU 32BIT 512KB FLASH 100TQFP; Manufacturer: Microchip Technology; Supplier 1: Digi-key; Supplier Part Number 1: PIC32MX370F512L-I/PT-ND; Reel Stock: N/A; Last modified by: J.Jaramillo; Last modified date: 20240310; ComponentLink1Description: Digi-key; ComponentLink1URL: https://www.digikey.com/en/products/detail/microchip-technology/PIC32MX370F512L-I-PT/4080090?s=N4IgTCBcDaIAoEkDCBmMBZAGig7ABgDEBWARjABkBaBAejgBUQBdAXyA; Manufacturer Part Number: PIC32MX370F512L-I/PT
footprint TQFP_100_12X12MM (/20220523/F-A.Ospina)
pins: 1 CN82/RG15 (io) "VCAP1", 2 VDD "PB5/SPI1_MOSI,SPI3_MOSI/I2S3_SD,I2C1_SMBAL,TIM3_CH2", 3 PMD5//CN63/RE5 (io) "NRST", 4 PMD6/SCL3/CN64/RE6 (io) "VCAP1", 5 PMD7/SDA3/CN65/RE7 (io) "PD2/TIM3_ETR,SDIO_CMD", 6 RPI38/CN45/RC1 (io) "PC12/SPI3_MOSI/I2S3_SD,SDIO_CK", 7 RPI39/CN46/RC2 (io) "PC13-ANTI_TAMP/TAMP_1", 8 RPI40/CN47/RC3 (io) "PC14-OSC32_IN/OSC32_IN", 9 RPI41/CN48/RC4 (io) "PC15-OSC32_OUT/OSC32_OUT", 10 PMA5/RP21/C1IND/CN8/RG6 (io) "PD2/TIM3_ETR,SDIO_CMD", 11 RP26/PMA4/C1INC/CN9/RG7 (io) "BOOT0", 12 RP19/PMA3/C2IND/CN10/RG8 (io) "NRST", 13 ~{MCLR} (in) "PB0/TIM1_CH2N,TIM3_CH3/ADC1_8", 14 RP27/PMA2/C2INC/CN11/RG9 (io) "VCAP1", 15 VSS "PB12/SPI2_NSS/I2S2_WS,I2C2_SMBAL,TIM1_BKIN", 16 VDD "PB6/I2C1_SCL,USART1_TX,TIM4_CH1", 17  TMS/CN33/RA0 (io) "PA0-WKUP/USART2_CTS,TIM2_CH1/TIM2_ETR,TIM5_CH1/ADC1_0,WKUP", 18 RPI33/CN66/RE8 (io) "BOOT0", 19 RPI34/CN6/RE9 (io) "NRST", 20 PGEC3/RP18/VBUSON/C1INA/AN5/CN7/RB5 (io) "PC1/ADC1_11", 21 PGED3/RP28/USBOEN/C1INB/AN4/CN6/RB4 (io) "PC0/ADC1_10", 22 VPIO/C2INA/AN3/CN5/RB3 (io) "PA15/SPI1_NSS,SPI3_NSS/I2S3_WS,TIM2_CH1/TIM2_ETR,JTDI", 23 VMI0/RP13/C2INB/AN2/CN4/RB2 (io) "PA14/JTCK-SWCLK", 24 PGEC1/RP1/AN1/CN3/RB1 (io) "PA13/JTMS-SWDIO", 25 PGED1/RP0/AN0/CN2/RB0 (io) "PA12/USART1_RTS,USART6_RX,TIM1_ETR,USB_FS_DP", 26 PGEC2/AN6/RP6/CN24/RB6 (io) "PC2/SPI2_MISO,I2S2ext_SD/ADC1_12", 27 PGED2/RCV/RP7/AN7/CN25/RB7 (io) "PC3/SPI2_MOSI/I2S2_SD/ADC1_13", 28 PMA7/VREF-/CN41/RA9 (io) "PA8/I2C3_SCL,USART1_CK,TIM1_CH1,USB_FS_SOF,MCO_1", 29 PMA6/VREF+/CN42/RA10 (io) "PA9/I2C3_SMBAL,USART1_TX,TIM1_CH2,USB_FS_VBUS", 30 AVDD "PB10/SPI2_SCK/I2S2_CK,I2C2_SCL,TIM2_CH3", 31 AVSS "PH1-OSC_OUT/OSC_OUT", 32 RP8/AN8/CN26/RB8 (io) "PC4/ADC1_14", 33 RP9/AN9/CN27/RB9 (io) "PC5/ADC1_15", 34 AN10/CVREF/PMA13/CN28/RB10 (io) "PC6/I2S2_MCK,USART6_TX,TIM3_CH1,SDIO_D6", 35 AN11/PMA12/CN29/RB11 (io) "PC7/I2S3_MCK,USART6_RX,TIM3_CH2,SDIO_D7", 36 VSS "PH0-OSC_IN/OSC_IN", 37 VDD "PB7/I2C1_SDA,USART1_RX,TIM4_CH2", 38 TCK/CN34/RA1 (io) "PA1/USART2_RTS,TIM2_CH2,TIM5_CH2/ADC1_1", 39 RP31/CN76/RF13 (io) "VCAP1", 40 RPI32/CN75/RF12 (io) "NRST", 41 AN12/CTED2/PMA11/CN30/RB12 (io) "PC9/I2S2_CKIN,I2C3_SDA,TIM3_CH4,SDIO_D1,MCO_2", 42 AN13/CTED1/PMA10/CN31/RB13 (io) "PC8/USART6_CK,TIM3_CH3,SDIO_D0", 43 CTPLS/RP14/PMA1/AN14/CN2/RB14 (io) "PC10/SPI3_SCK/I2S3_CK,SDIO_D2", 44 RP29/PMA0/AN15/REFO/CN12/RB15 (io) "PC11/I2S3ext_SD,SPI3_MISO,SDIO_D3", 45 VSS "PB13/SPI2_SCK/I2S2_CK,TIM1_CH1N", 46 VDD "PB8/I2C1_SCL,TIM4_CH3,TIM10_CH1,SDIO_D4", 47 RPI43/CN20/RD14 (io) "PC15-OSC32_OUT/OSC32_OUT", 48 RP5/CN21/RD15 (io) "PC15-OSC32_OUT/OSC32_OUT", 49 RP10/PMA9/CN17/RF4 (io) "VCAP1", 50 RP17/PMA8/CN18/RF5 (io) "PD2/TIM3_ETR,SDIO_CMD", 51 RP16/USBID/CN71/RF3 (io) "NRST", 52 RP30/CN70/RF2 (io) "BOOT0", 53 RP15/CN74/RF8 (io) "BOOT0", 54 ROF7/RF7 "PB3/SPI1_SCK,SPI3_SCK/I2S3_CK,I2C2_SDA,TIM2_CH2,JTDO-SWO", 55 PRF6/SCK1/INT0/RF6 "PB4/SPI1_MISO,SPI3_MISO,I2S3ext_SD,I2C3_SDA,TIM3_CH1,JTRST", 56 SDA1/RG3, 57 SCL1/RG2 (io) "NRST", 58 SCL2/CN35/RA2 (io) "PA2/USART2_TX,TIM2_CH3,TIM5_CH3,TIM9_CH1/ADC1_2", 59 SDA2/CN36/RA3 (io) "PA3/USART2_RX,TIM2_CH4,TIM5_CH4,TIM9_CH2/ADC1_3", 60 TDI/CN37/RA4 (io) "PA4/SPI1_NSS,SPI3_NSS/I2S3_WS,USART2_CK/ADC1_4", 61 TDO/CN38/RA5 (io) "PA5/SPI1_SCK,TIM2_CH1/TIM2_ETR/ADC1_5", 62 VDD "PB9/SPI2_NSS/I2S2_WS,I2C1_SDA,TIM4_CH4,TIM11_CH1,SDIO_D5", 63 OSCI/CLKI/CN23/RC12 (io) "PC15-OSC32_OUT/OSC32_OUT", 64 OSCO/CLKO/CN22/RC15 (io) "PC15-OSC32_OUT/OSC32_OUT", 65 VSS "PB14/SPI2_MISO,I2S2ext_SD,TIM1_CH2N", 66 RPI36/SCL1/CN43/RA14 (io) "PA10/USART1_RX,TIM1_CH3,USB_FS_ID", 67 RPI35/SDA1/CN44/RA15 (io) "PA11/USART1_CTS,USART6_TX,TIM1_CH4,USB_FS_DM", 68 RP2/DMLN/RTCC/CN53/RD8 (io) "PC15-OSC32_OUT/OSC32_OUT", 69 RP4/DPLN/CN54/RD9 (io) "PC15-OSC32_OUT/OSC32_OUT", 70 RP3/PMCS2/CN56/RD10 (io) "PC15-OSC32_OUT/OSC32_OUT", 71 RP12/PMCS1/CN56/RD11 (io) "PC15-OSC32_OUT/OSC32_OUT", 72 RP11/DMH/CN49/INT0/RD0 (io) "PC15-OSC32_OUT/OSC32_OUT", 73 SOSCI/C3IND/CN1/RC13 (io) "PC15-OSC32_OUT/OSC32_OUT", 74 RPI37/SOSCO/C3INC/T1CLK/CN/RC14 (io) "PC15-OSC32_OUT/OSC32_OUT", 75 VSS "PB15/SPI2_MOSI/I2S2_SD,TIM1_CH3N,RTC_50Hz", 76 RP24/VCPCON/CN50/RD1 (io) "PC15-OSC32_OUT/OSC32_OUT", 77 DPH/RP23/CN51/RD2 (io) "PC15-OSC32_OUT/OSC32_OUT", 78 RP22/PMBE/CN52/RD3 (io) "PC15-OSC32_OUT/OSC32_OUT", 79 RPI42/CN57/RD12 (io) "PC15-OSC32_OUT/OSC32_OUT", 80 CN19/RD13 (io) "PC15-OSC32_OUT/OSC32_OUT", 81 PMWR/RP25/CN13/RD4 (io) "PC15-OSC32_OUT/OSC32_OUT", 82 PMRD/RP20/CN14/RD5 (io) "PC15-OSC32_OUT/OSC32_OUT", 83 C3INB/CN15/RD6 (io) "PC15-OSC32_OUT/OSC32_OUT", 84 C3INA/CN16/RD7 (io) "PC15-OSC32_OUT/OSC32_OUT", 85 Vcap "PB2", 86 VDD "PB1/TIM1_CH3N,TIM3_CH4/ADC1_9", 87 VBUSST/VCMPST1/CN68/RF0 (power) "VCAP1", 88 VCMPST2/CN69/RF1 (io) "PD2/TIM3_ETR,SDIO_CMD", 89 CN78/RG1 (io) "BOOT0", 90 CN77/RG0 (io) "PD2/TIM3_ETR,SDIO_CMD", 91 CN39/RA6 (io) "PA6/SPI1_MISO,TIM1_BKIN,TIM3_CH1/ADC1_6", 92 CN40/RA7 (io) "PA7/SPI1_MOSI,TIM1_CH1N,TIM3_CH2/ADC1_7", 93 PMD0/CN58/RE0 (io) "BOOT0", 94 PMD1/CN59/RE1 (io) "NRST", 95 CN81/RG14 (io) "NRST", 96 CN79/RG12 (io) "PD2/TIM3_ETR,SDIO_CMD", 97 CN80/RG13 (io) "BOOT0", 98 PMD2/CN50/RE2 (io) "VCAP1", 99 PMD3/CN61/RE3 (io) "PD2/TIM3_ETR,SDIO_CMD", 100 PMD4/CN62/RE4 (io) "BOOT0"

## IC_MCU_STM32F030C8T6
designator U?, comment STM32F030C8T6
IC MCU 32BIT 64KB FLASH 48LQFP; Manufacturer: STMicroelectronics; Manufacturer Part Number: STM32F030C8T6; Supplier 1: Digi-Key; Supplier Part Number 1: 497-14043-ND; Reel Stock: N/A; Last modified by: J.Jaramillo; Last modified date: 20240310; ComponentLink1Description: Datasheet; ComponentLink1URL: http://www.st.com/content/ccc/resource/technical/document/datasheet/a4/5d/0b/0e/87/c4/4d/71/DM00088500.pdf/files/DM00088500.pdf/jcr:content/translations/en.DM00088500.pdf; ComponentLink2Description: Digi-Key; ComponentLink2URL: https://www.digikey.com/en/products/detail/stmicroelectronics/STM32F030C8T6/4357252
footprint LQFP_48_7x7mm (48-LQFP / 20190221 / H-D.Garcia)
part A pins: 2 PC13 (io) "PC13/RTC_TAMP1,RTC_TS,RTC_OUT,WKUP2", 3 PC14-OSC32_IN(PC14) (io) "PC14-OSC32_IN(PC14)/OSC32_IN", 4 PC15-OSC32_OUT(PC15) (io) "PC15-OSC32_OUT(PC15)/OSC32_OUT", 5 PF0-OSC_IN(PF0) (io) "PF0-OSC_IN(PF0)/OSC_IN", 6 PF1-OSC_OUT(PF1) (io) "PF1-OSC_OUT(PF1)/OSC_OUT", 7 NRST (io) "Device reset input / internal reset output (active low)", 10 PA0 (io) "PA0/USART2_CTS/ADC_IN0,RTC_TAMP2,WKUP1", 11 PA1 (io) "PA1/USART2_RTS,EVENTOUT/ADC_IN1", 12 PA2 (io) "PA2/USART2_TX,TIM15_CH1/ADC_IN2", 13 PA3 (io) "PA3/USART2_RX,TIM15_CH2/ADC_IN3", 14 PA4 (io) "PA4/SPI1_NSS/USART2_CK,TIM14_CH1/ADC_IN4", 15 PA5 (io) "PA5/SPI1_SCK/ADC_IN5", 16 PA6 (io) "PA6/SPI1_MISO,TIM3_CH1,TIM1_BKIN,TIM16_CH1,EVENTOUT/ADC_IN6", 17 PA7 (io) "PA7/SPI1_MOSI,TIM3_CH2,TIM14_CH1,TIM1_CH1N,TIM17_CH1,EVENTOUT/ADC_IN7", 18 PB0 (io) "PB0/TIM3_CH3,TIM1_CH2N,EVENTOUT/ADC_IN8", 19 PB1 (io) "PB1/TIM3_CH4,TIM14_CH1,TIM1_CH3N/ADC_IN9", 20 PB2 (io), 21 PB10 (io) "PB10/I2C2_SCL", 22 PB11 (io) "PB11/I2C2_SDA,EVENTOUT", 25 PB12 (io) "PB12/SPI2_NSS,TIM1_BKIN,EVENTOUT", 26 PB13 (io) "PB13/SPI2_SCK,TIM1_CH1N", 27 PB14 (io) "PB14/SPI2_MISO,TIM1_CH2N,TIM15_CH1", 28 PB15 (io) "PB15/SPI2_MOSI,TIM1_CH3N,TIM15_CH1N,TIM15_CH2/RTC_REFIN", 29 PA8 (io) "PA8/USART1_CK,TIM1_CH1,EVENTOUT,MCO", 30 PA9 (io) "PA9/USART1_TX,TIM1_CH2,TIM15_BKIN", 31 PA10 (io) "PA10/USART1_RX,TIM1_CH3,TIM17_BKIN", 32 PA11 (io) "PA11/USART1_CTS,TIM1_CH4,EVENTOUT", 33 PA12 (io) "PA12/USART1_RTS,TIM1_ETR,EVENTOUT", 34 PA13(SWDIO) (io) "PA13(SWDIO)/IR_OUT,SWDIO", 35 PF6 (io) "PF6/I2C2_SCL", 36 PF7 (io) "PF7/I2C2_SDA", 37 PA14(SWCLK) (io) "PA14(SWCLK)/USART2_TX,SWCLK", 38 PA15 (io) "PA15/SPI1_NSS,USART2_RX,EVENTOUT", 39 PB3 (io) "PB3/SPI1_SCK,EVENTOUT", 40 PB4 (io) "PB4/SPI1_MISO,TIM3_CH1,EVENTOUT", 41 PB5 (io) "PB5/SPI1_MOSI,I2C1_SMBA,TIM16_BKIN,TIM3_CH2", 42 PB6 (io) "PB6/I2C1_SCL,USART1_TX,TIM16_CH1N", 43 PB7 (io) "PB7/I2C1_SDA,USART1_RX,TIM17_CH1N", 44 BOOT0 (in) "Boot memory selection", 45 PB8 (io) "PB8/I2C1_SCL,TIM16_CH1", 46 PB9 (io) "PB9/I2C1_SDA,IR_OUT,TIM17_CH1,EVENTOUT"
part B pins: 1 VDD (power) "Digital power supply", 8 VSSA (power) "Analog ground", 9 VDDA (power) "Analog power supply", 23 VSS (power) "Ground", 24 VDD (power) "Digital power supply", 47 VSS (power) "Ground", 48 VDD (power) "Digital power supply"

## IC_MCU_STM32F030CCT6TR
designator U?, comment STM32F030CCT6TR
IC MCU 32BIT 256KB FLASH 48LQFP; Manufacturer: STMicroelectronics; Manufacturer Part Number: STM32F030CCT6TR; Supplier 1: Digi-Key; Supplier Part Number 1: 497-17332-1-ND; Reel Stock: N/A; Last modified by: J.Jaramillo; Last modified date: 20240310; ComponentLink1Description: Link; ComponentLink1URL: https://www.digikey.com/en/products/detail/stmicroelectronics/STM32F030CCT6TR/6833532?s=N4IgTCBcDaIMoBUCyBmMAxADCzBhXCAbAgEogC6AvkA
footprint LQFP_48_7x7mm (48-LQFP / 20190221 / H-D.Garcia)
part A pins: 2 PC13 (io) "PC13/RTC_TAMP1,RTC_TS,RTC_OUT,WKUP2", 3 PC14-OSC32_IN(PC14) (io) "PC14-OSC32_IN(PC14)/OSC32_IN", 4 PC15-OSC32_OUT(PC15) (io) "PC15-OSC32_OUT(PC15)/OSC32_OUT", 5 PF0-OSC_IN(PF0) (io) "PF0-OSC_IN(PF0)/OSC_IN", 6 PF1-OSC_OUT(PF1) (io) "PF1-OSC_OUT(PF1)/OSC_OUT", 7 NRST (io) "Device reset input / internal reset output (active low)", 10 PA0 (io) "PA0/USART2_CTS/ADC_IN0,RTC_TAMP2,WKUP1", 11 PA1 (io) "PA1/USART2_RTS,EVENTOUT/ADC_IN1", 12 PA2 (io) "PA2/USART2_TX,TIM15_CH1/ADC_IN2", 13 PA3 (io) "PA3/USART2_RX,TIM15_CH2/ADC_IN3", 14 PA4 (io) "PA4/SPI1_NSS/USART2_CK,TIM14_CH1/ADC_IN4", 15 PA5 (io) "PA5/SPI1_SCK/ADC_IN5", 16 PA6 (io) "PA6/SPI1_MISO,TIM3_CH1,TIM1_BKIN,TIM16_CH1,EVENTOUT/ADC_IN6", 17 PA7 (io) "PA7/SPI1_MOSI,TIM3_CH2,TIM14_CH1,TIM1_CH1N,TIM17_CH1,EVENTOUT/ADC_IN7", 18 PB0 (io) "PB0/TIM3_CH3,TIM1_CH2N,EVENTOUT/ADC_IN8", 19 PB1 (io) "PB1/TIM3_CH4,TIM14_CH1,TIM1_CH3N/ADC_IN9", 20 PB2 (io), 21 PB10 (io) "PB10/I2C2_SCL", 22 PB11 (io) "PB11/I2C2_SDA,EVENTOUT", 25 PB12 (io) "PB12/SPI2_NSS,TIM1_BKIN,EVENTOUT", 26 PB13 (io) "PB13/SPI2_SCK,TIM1_CH1N", 27 PB14 (io) "PB14/SPI2_MISO,TIM1_CH2N,TIM15_CH1", 28 PB15 (io) "PB15/SPI2_MOSI,TIM1_CH3N,TIM15_CH1N,TIM15_CH2/RTC_REFIN", 29 PA8 (io) "PA8/USART1_CK,TIM1_CH1,EVENTOUT,MCO", 30 PA9 (io) "PA9/USART1_TX,TIM1_CH2,TIM15_BKIN", 31 PA10 (io) "PA10/USART1_RX,TIM1_CH3,TIM17_BKIN", 32 PA11 (io) "PA11/USART1_CTS,TIM1_CH4,EVENTOUT", 33 PA12 (io) "PA12/USART1_RTS,TIM1_ETR,EVENTOUT", 34 PA13(SWDIO) (io) "PA13(SWDIO)/IR_OUT,SWDIO", 37 PA14(SWCLK) (io) "PA14(SWCLK)/USART2_TX,SWCLK", 38 PA15 (io) "PA15/SPI1_NSS,USART2_RX,EVENTOUT", 39 PB3 (io) "PB3/SPI1_SCK,EVENTOUT", 40 PB4 (io) "PB4/SPI1_MISO,TIM3_CH1,EVENTOUT", 41 PB5 (io) "PB5/SPI1_MOSI,I2C1_SMBA,TIM16_BKIN,TIM3_CH2", 42 PB6 (io) "PB6/I2C1_SCL,USART1_TX,TIM16_CH1N", 43 PB7 (io) "PB7/I2C1_SDA,USART1_RX,TIM17_CH1N", 44 BOOT0 (in) "Boot memory selection", 45 PB8 (io) "PB8/I2C1_SCL,TIM16_CH1", 46 PB9 (io) "PB9/I2C1_SDA,IR_OUT,TIM17_CH1,EVENTOUT"
part B pins: 1 VDD (power) "Complementary power supply", 8 VSSA (power) "Analog ground", 9 VDDA (power) "Analog power supply", 23 VSS (power) "Ground", 24 VDD (power) "Digital power supply", 35 VSS (power) "Ground", 36 VDD (power) "Digital power supply", 47 VSS (power) "Ground", 48 VDD (power) "Digital power supply"

## IC_MCU_STM32F030K6T6
designator U?, comment STM32F030K6T6
IC MCU 32BIT 32KB FLASH 32LQFP; Manufacturer: STMicroelectronics; Manufacturer Part Number: STM32F030K6T6; Supplier 1: Digi-Key; Supplier Part Number 1: 497-14046-ND; Reel Stock: N/A; Last modified by: J.Jaramillo; Last modified date: 20240310; ComponentLink1Description: Datasheet; ComponentLink1URL: http://www.st.com/content/ccc/resource/technical/document/datasheet/a4/5d/0b/0e/87/c4/4d/71/DM00088500.pdf/files/DM00088500.pdf/jcr:content/translations/en.DM00088500.pdf; ComponentLink2Description: Digi-Key; ComponentLink2URL: https://www.digikey.com/en/products/detail/stmicroelectronics/STM32F030K6T6/4494296?s=N4IgTCBcDaICwE4DsBaAjHADHAbCgcgCIgC6AvkA
footprint LQFP_32_7x7mm (32-LQFP / 20190221 / H-D.Garcia)
part A pins: 2 PF0-OSC_IN(PF0) (io) "PF0-OSC_IN(PF0)/OSC_IN", 3 PF1-OSC_OUT(PF1) (io) "PF1-OSC_OUT(PF1)/OSC_OUT", 4 NRST (io) "Device reset input / internal reset output (active low)", 6 PA0 (io) "PA0/USART1_CTS/ADC_IN0,RTC_TAMP2,WKUP1", 7 PA1 (io) "PA1/USART1_RTS,EVENTOUT/ADC_IN1", 8 PA2 (io) "PA2/USART1_TX/ADC_IN2", 9 PA3 (io) "PA3/USART1_RX/ADC_IN3", 10 PA4 (io) "PA4/SPI1_NSS,USART1_CK,TIM14_CH1/ADC_IN4", 11 PA5 (io) "PA5/SPI1_SCK/ADC_IN5", 12 PA6 (io) "PA6/SPI1_MISO,TIM3_CH1,TIM1_BKIN,TIM16_CH1,EVENTOUT/ADC_IN6", 13 PA7 (io) "PA7/SPI1_MOSI,TIM3_CH2,TIM14_CH1,TIM1_CH1N,TIM17_CH1,EVENTOUT/ADC_IN7", 14 PB0 (io) "PB0/TIM3_CH3,TIM1_CH2N,EVENTOUT/ADC_IN8", 15 PB1 (io) "PB1/TIM3_CH4,TIM14_CH1,TIM1_CH3N/ADC_IN9", 18 PA8 (io) "PA8/USART1_CK,TIM1_CH1,EVENTOUT,MCO", 19 PA9 (io) "PA9/USART1_TX,TIM1_CH2,I2C1_SCL", 20 PA10 (io) "PA10/USART1_RX,TIM1_CH3,TIM17_BKIN,I2C1_SDA", 21 PA11 (io) "PA11/USART1_CTS,TIM1_CH4,EVENTOUT", 22 PA12 (io) "PA12/USART1_RTS,TIM1_ETR,EVENTOUT", 23 PA13(SWDIO) (io) "PA13(SWDIO)/IR_OUT,SWDIO", 24 PA14(SWCLK) (io) "PA14(SWCLK)/USART1_TX,SWCLK", 25 PA15 (io) "PA15/SPI1_NSS,USART1_RX,EVENTOUT", 26 PB3 (io) "PB3/SPI1_SCK,EVENTOUT", 27 PB4 (io) "PB4/SPI1_MISO,TIM3_CH1,EVENTOUT", 28 PB5 (io) "PB5/SPI1_MOSI,I2C1_SMBA,TIM16_BKIN,TIM3_CH2", 29 PB6 (io) "PB6/I2C1_SCL,USART1_TX,TIM16_CH1N", 30 PB7 (io) "PB7/I2C1_SDA,USART1_RX,TIM17_CH1N", 31 BOOT0 (in) "Boot memory selection"
part B pins: 1 VDD (power) "Digital power supply", 5 VDDA (power) "Analog power supply", 16 VSS (power) "Ground", 17 VDD (power) "Digital power supply", 32 VSS (power) "Ground"

## IC_MCU_STM32F030R8T6
designator U?, comment STM32F030R8T6
IC MCU 32BIT 64KB FLASH 64LQFP; Manufacturer: STMicroelectronics; Manufacturer Part Number: STM32F030R8T6; Supplier 1: Digi-Key; Supplier Part Number 1: 497-14045-ND; Reel Stock: N/A; Last modified by: J.Jaramillo; Last modified date: 20240310; ComponentLink1Description: Datasheet; ComponentLink1URL: http://www.st.com/content/ccc/resource/technical/document/datasheet/a4/5d/0b/0e/87/c4/4d/71/DM00088500.pdf/files/DM00088500.pdf/jcr:content/translations/en.DM00088500.pdf; ComponentLink2Description: Digi-Key; ComponentLink2URL: digikey.com/en/products/detail/stmicroelectronics/STM32F030R8T6/4357253?s=N4IgTCBcDaICwE4DsBaAjHADHArCgcgCIgC6AvkA
footprint LQFP_64_10x10mm (64-LQFP / 20190221 / H-D.Garcia)
pins: 2 PC13 (io), 3 PC14-OSC32_IN(PC14) (io), 4 PC15-OSC32_OUT(PC15) (io), 5 PF0-OSC_IN(PF0) (io), 6 PF1-OSC_OUT(PF1) (io), 7 NRST (io) "Device reset input / internal reset output (active low)", 8 PC0 (io) "PC0/EVENTOUT/ADC_IN10", 9 PC1 (io) "PC1/EVENTOUT/ADC_IN11", 10 PC2 (io) "PC2/EVENTOUT/ADC_IN12", 11 PC3 (io) "PC3/EVENTOUT/ADC_IN13", 14 PA0 (io) "PA0/USART2_CTS/ADC_IN0,RTC_TAMP2,WKUP1", 15 PA1 (io) "PA1/USART2_RTS,EVENTOUT/ADC_IN1", 16 PA2 (io) "PA2/USART2_TX,TIM15_CH1/ADC_IN2", 17 PA3 (io) "PA3/USART2_RX,TIM15_CH2/ADC_IN3", 18 PF4 (io) "PF4/EVENTOUT", 19 PF5 (io) "PF5/EVENTOUT", 20 PA4 (io) "PA4/SPI1_NSS,USART2_CK,TIM14_CH1/ADC_IN4", 21 PA5 (io) "PA5/SPI1_SCK/ADC_IN5", 22 PA6 (io) "PA6/SPI1_MISO,TIM3_CH1,TIM1_BKIN,TIM16_CH1,EVENTOUT/ADC_IN6", 23 PA7 (io) "PA7/SPI1_MOSI,TIM3_CH2,TIM14_CH1,TIM1_CH1N,TIM17_CH1,EVENTOUT/ADC_IN7", 24 PC4 (io) "PC4/EVENTOUT/ADC_IN14", 25 PC5 (io) "PC5/ADC_IN15", 26 PB0 (io) "PB0/TIM3_CH3,TIM1_CH2N,EVENTOUT/ADC_IN8", 27 PB1 (io) "PB1/TIM3_CH4,TIM14_CH1,TIM1_CH3N/ADC_IN9", 28 PB2 (io), 29 PB10 (io) "PB10/I2C2_SCL", 30 PB11 (io) "PB11/I2C2_SDA,EVENTOUT", 33 PB12 (io) "PB12/SPI2_NSS,TIM1_BKIN,EVENTOUT", 34 PB13 (io) "PB13/SPI2_SCK,TIM1_CH1N", 35 PB14 (io) "PB14/SPI2_MISO,TIM1_CH2N,TIM15_CH1", 36 PB15 (io) "PB15/SPI2_MOSI,TIM1_CH3N,TIM15_CH1N,TIM15_CH2/RTC_REFIN", 37 PC6 (io) "PC6/TIM3_CH1", 38 PC7 (io) "PC7/TIM3_CH2", 39 PC8 (io) "PC8/TIM3_CH3", 40 PC9 (io) "PC9/TIM3_CH4", 41 PA8 (io) "PA8/USART1_CK,TIM1_CH1,EVENTOUT,MCO", 42 PA9 (io) "PA9/USART1_TX,TIM1_CH2,TIM15_BKIN", 43 PA10 (io) "PA10/USART1_RX,TIM1_CH3,TIM17_BKIN", 44 PA11 (io) "PA11/USART1_CTS,TIM1_CH4,EVENTOUT", 45 PA12 (io) "PA12/USART1_RTS,TIM1_ETR,EVENTOUT", 46 PA13(SWDIO) (io) "PA13(SWDIO)/IR_OUT,SWDIO", 47 PF6 (io) "PF6/I2C2_SCL", 48 PF7 (io) "PF7/I2C2_SDA", 49 PA14(SWCLK) (io) "PA14(SWCLK)/USART2_TX,SWCLK", 50 PA15 (io) "PA15/SPI1_NSS,USART2_RX,EVENTOUT", 51 PC10 (io), 52 PC11 (io), 53 PC12 (io), 54 PD2 (io) "PD2/TIM3_ETR", 55 PB3 (io) "PB3/SPI1_SCK,EVENTOUT", 56 PB4 (io) "PB4/SPI1_MISO,TIM3_CH1,EVENTOUT", 57 PB5 (io) "PB5/SPI1_MOSI,I2C1_SMBA,TIM16_BKIN,TIM3_CH2", 58 PB6 (io) "PB6/I2C1_SCL,USART1_TX,TIM16_CH1N", 59 PB7 (io) "PB7/I2C1_SDA,USART1_RX,TIM17_CH1N", 60 BOOT0 (in) "Boot memory selection", 61 PB8 (io) "PB8/I2C1_SCL,TIM16_CH1", 62 PB9 (io) "PB9/I2C1_SDA,IR_OUT,TIM17_CH1,EVENTOUT"

## IC_MCU_STM32F030RCT6TR
designator U?, comment STM32F030RCT6TR
IC MCU 32BIT 256KB FLASH 64LQFP; Manufacturer: STMicroelectronics; Manufacturer Part Number: STM32F030RCT6TR; Supplier 1: Digi-Key; Supplier Part Number 1: 497-17337-1-ND; Reel Stock: N/A; Last modified by: J.Jaramillo; Last modified date: 20240310; ComponentLink1Description: Datasheet; ComponentLink1URL: http://www.st.com/content/ccc/resource/technical/document/datasheet/a4/5d/0b/0e/87/c4/4d/71/DM00088500.pdf/files/DM00088500.pdf/jcr:content/translations/en.DM00088500.pdf; ComponentLink2Description: Digi-Key; ComponentLink2URL: https://www.digikey.com/en/products/detail/stmicroelectronics/STM32F030RCT6TR/6833533?s=N4IgTCBcDaICwE4DsBaAjEgzJ1aUDkAREAXQF8g
footprint LQFP_64_10x10mm (64-LQFP / 20190221 / H-D.Garcia)
pins: 1 VDD (power) "Complementary power supply", 2 PC13 (io) "PC13/RTC_TAMP1,RTC_TS,RTC_OUT,WKUP2", 3 PC14-OSC32_IN(PC14) (io) "PC14-OSC32_IN(PC14)/OSC32_IN", 4 PC15-OSC32_OUT(PC15) (io) "PC15-OSC32_OUT(PC15)/OSC32_OUT", 5 PF0-OSC_IN(PF0) (io) "PF0-OSC_IN(PF0)/I2C1_SDA/OSC_IN", 6 PF1-OSC_OUT(PF1) (io) "PF1-OSC_OUT(PF1)/I2C1_SCL/OSC_OUT", 7 NRST (io) "Device reset input/internal reset output(active low)", 8 PC0 (io) "PC0/EVENTOUT,USART6_TX,USART7_TX/ADC_IN10", 9 PC1 (io) "PC1/EVENTOUT,USART6_RX,USART7_RX/ADC_IN11", 10 PC2 (io) "PC2/SPI2_MISO,EVENTOUT/ADC_IN12", 11 PC3 (io) "PC3/SPI2_MOSI,EVENTOUT/ADC_IN13", 12 VSSA (power) "Analog ground", 13 VDDA (power) "Analog power supply", 14 PA0 (io) "PA0/USART2_CTS,USART4_TX/ADC_IN0,RTC_TAMP2,WKUP1", 15 PA1 (io) "PA1/USART2_RTS,EVENTOUT,USART4_RX/ADC_IN1", 16 PA2 (io) "PA2/USART2_TX,TIM15_CH1/ADC_IN2", 17 PA3 (io) "PA3/USART2_RX,TIM15_CH2/ADC_IN3", 18 VSS (power) "Ground", 19 VDD (power) "Digital power supply", 20 PA4 (io) "PA4/SPI1_NSS,USART2_CK,TIM14_CH1,USART6_TX/ADC_IN4", 21 PA5 (io) "PA5/SPI1_SCK,USART6_RX/ADC_IN5", 22 PA6 (io) "PA6/SPI1_MISO,TIM3_CH1,TIM1_BKIN,TIM16_CH1,EVENTOUT,USART3_CTS/ADC_IN6", 23 PA7 (io) "PA7/SPI1_MOSI,TIM3_CH2,TIM14_CH1,TIM1_CH1N,TIM17_CH1,EVENTOUT/ADC_IN7", 24 PC4 (io) "PC4/EVENTOUT,USART3_TX/ADC_IN14", 25 PC5 (io) "PC5/USART3_RX/ADC_IN15", 26 PB0 (io) "PB0/TIM3_CH3,TIM1_CH2N,EVENTOUT,USART3_CK/ADC_IN8", 27 PB1 (io) "PB1/TIM3_CH4,TIM14_CH1,TIM1_CH3N,USART3_RTS/ADC_IN9", 28 PB2 (io), 29 PB10 (io) "PB10/SPI2_SCK,I2C2_SCL,USART3_TX", 30 PB11 (io) "PB11/I2C2_SDA,EVENTOUT,USART3_RX", 31 VSS (power) "Ground", 32 VDD (power) "Digital power supply", 33 PB12 (io) "PB12/SPI2_NSS,TIM1_BKIN,EVENTOUT,USART3_CK", 34 PB13 (io) "PB13/SPI2_SCK,I2C2_SDA,TIM1_CH1N,USART3_CTS", 35 PB14 (io) "PB14/SPI2_MISO,I2C2_SDA,TIM1_CH2N,TIM15_CH1,USART3_RTS", 36 PB15 (io) "PB15/SPI2_MOSI,TIM1_CH3N,TIM15_CH1N,TIM15_CH2/RTC_REFIN", 37 PC6 (io) "PC6/TIM3_CH1", 38 PC7 (io) "PC7/TIM3_CH2", 39 PC8 (io) "PC8/TIM3_CH3", 40 PC9 (io) "PC9/TIM3_CH4", 41 PA8 (io) "PA8/USART1_CK,TIM1_CH1,EVENTOUT,MCO", 42 PA9 (io) "PA9/USART1_TX,TIM1_CH2,TIM15_BKIN,I2C1_SCL", 43 PA10 (io) "PA10/USART1_RX,TIM1_CH3,TIM17_BKIN,I2C1_SDA", 44 PA11 (io) "PA11/USART1_CTS,TIM1_CH4,EVENTOUT,I2C2_SCL", 45 PA12 (io) "PA12/USART1_RTS,TIM1_ETR,EVENTOUT,I2C2_SDA", 46 PA13(SWDIO) (io) "PA13(SWDIO)/IR_OUT,SWDIO", 47 VSS (power) "Ground", 48 VDD (power) "Digital power supply", 49 PA14(SWCLK) (io) "PA14(SWCLK)/USART2_TX,SWCLK", 50 PA15 (io) "PA15/SPI1_NSS,USART2_RX,USART4_RTS,EVENTOUT", 51 PC10 (io) "PC10/USART3_TX,USART4_TX", 52 PC11 (io) "PC11/USART3_RX,USART4_RX", 53 PC12 (io) "PC12/USART3_CK,USART4_CK,USART5_TX", 54 PD2 (io) "PD2/TIM3_ETR,USART3_RTS,USART5_RX", 55 PB3 (io) "PB3/SPI1_SCK,EVENTOUT,USART5_TX", 56 PB4 (io) "PB4/SPI1_MISO,TIM3_CH1,EVENTOUT,TIM17_BKIN,USART5_RX", 57 PB5 (io) "PB5/SPI1_MOSI,I2C1_SMBA,TIM16_BKIN,TIM3_CH2,USART5_CK_RTS", 58 PB6 (io) "PB6/I2C1_SCL,USART1_TX,TIM16_CH1N", 59 PB7 (io) "PB7/I2C1_SDA,USART1_RX,TIM17_CH1N,USART4_CTS", 60 BOOT0 (in) "Boot memory selection", 61 PB8 (io) "PB8/I2C1_SCL,TIM16_CH1", 62 PB9 (io) "PB9/I2C1_SDA,IR_OUT,SPI2_NSS,TIM17_CH1,EVENTOUT", 63 VSS (power) "Ground", 64 VDD (power) "Digital power supply"

## IC_MCU_STM32F070RBT6TR
designator U?, comment STM32F070RBT6TR
IC MCU 32BIT 128KB FLASH 64LQFP; Manufacturer: STMicroelectronics; Manufacturer Part Number: STM32F070RBT6TR; Reel Stock: N/A; Last modified by: J.Jaramillo; Last modified date: 20240310; ComponentLink1Description: Digi-key; ComponentLink1URL: https://www.digikey.com/product-detail/en/stmicroelectronics/STM32F070RBT6TR/497-17355-1-ND/8024097; Supplier 1: Digi-Key; Supplier Part Number 1: 497-17355-1-ND; ComponentLink2Description: datasheet; ComponentLink2URL: https://www.st.com/content/ccc/resource/technical/document/datasheet/31/4f/10/5f/a5/32/46/42/DM00141386.pdf/files/DM00141386.pdf/jcr:content/translations/en.DM00141386.pdf
footprint LQFP_64_10x10mm_L (64-LQFP / 20190726 / V-A.Patino)
pins: 1 VDD, 2 PC13 (io), 3 PC14-OSC32_IN (io), 4 PC15-OSC32_OUT (io), 5 PFO-OSC_IN (io), 6 PFO-OSC_OUT (io), 7 NRST (in), 8 PC0 (io), 9 PC1 (io), 10 PC2 (io), 11 PC3 (io), 12 VSSA, 13 VDDA, 14 PA0 (io), 15 PA1 (io), 16 PA2 (io), 17 PA3 (io), 18 VSS, 19 VDD, 20 PA4 (io), 21 PA5 (io), 22 PA6 (io), 23 PA7 (io), 24 PC4 (io), 25 PC5 (io), 26 PB0 (io), 27 PB1 (io), 28 PB2 (io), 29 PB10 (io), 30 PB11 (io), 31 VSS, 32 VDD, 33 PB12 (io), 34 PB13 (io), 35 PB14 (io), 36 PB15 (io), 37 PC6 (io), 38 PC7 (io), 39 PC8 (io), 40 PC9 (io), 41 PA8 (io), 42 PA9 (io), 43 PA10 (io), 44 PA11 (io), 45 PA12 (io), 46 PA13 (io), 47 VSS, 48 VDD, 49 PA14 (io), 50 PA15 (io), 51 PC10 (io), 52 PC11 (io), 53 PC12 (io), 54 PD2 (io), 55 PB3 (io), 56 PB4 (io), 57 PB5 (io), 58 PB6 (io), 59 PB7 (io), 60 BOOT0 (in), 61 PB8 (io), 62 PB9 (io), 63 VSS, 64 VDD

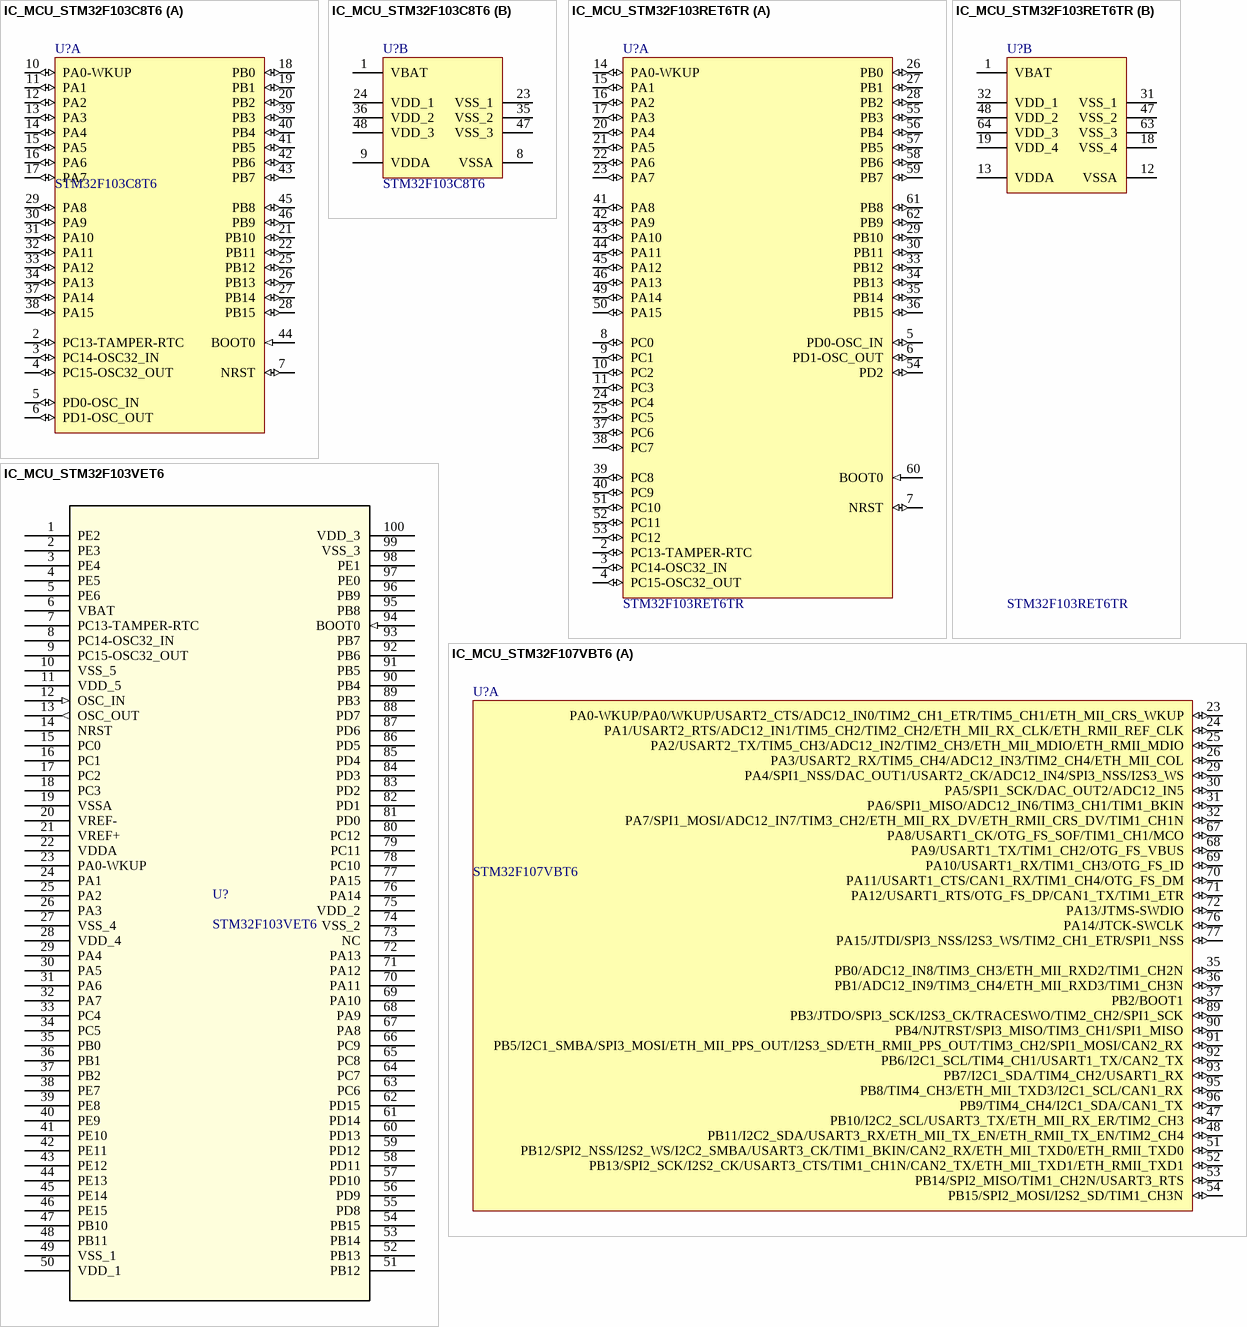
[diagram p4: symbols IC_MCU_STM32F103C8T6 to IC_MCU_STM32F107VBT6]

## IC_MCU_STM32F103C8T6
designator U?, comment STM32F103C8T6
IC MCU 32BIT 64KB FLASH 48LQFP; Manufacturer: STMicroelectronics; Manufacturer Part Number: STM32F103C8T6; Supplier Part Number 1: 497-6063-ND; Supplier 1: Digi-Key; Reel Stock: N/A; Last modified by: J.Jaramillo; Last modified date: 20240310; ComponentLink1Description: Digi-Key; ComponentLink1URL: https://www.digikey.com/products/en?keywords=497-6063-ND
footprint LQFP_48_7x7mm (48-LQFP / 20190221 / H-D.Garcia)
part A pins: 2 PC13-TAMPER-RTC (io) "PC13-TAMPER-RTC/PC13/TAMPER-RTC", 3 PC14-OSC32_IN (io) "PC14-OSC32_IN/PC14/OSC32_IN", 4 PC15-OSC32_OUT (io) "PC15-OSC32_OUT/PC15/OSC32_OUT", 5 PD0-OSC_IN (io) "PD0/OSC_IN", 6 PD1-OSC_OUT (io) "PD1/OSC_OUT", 7 NRST (io), 10 PA0-WKUP (io) "PA0-WKUP/PA0/WKUP/USART2_CTS/ADC12_IN0/TIM2_CH1_ETR", 11 PA1 (io) "PA1/USART2_RTS/ADC12_IN1/TIM2_CH2", 12 PA2 (io) "PA2/USART2_TX/ADC12_IN2/TIM2_CH3", 13 PA3 (io) "PA3/USART2_RX/ADC12_IN3/TIM2_CH4", 14 PA4 (io) "PA4/SPI1_NSS/USART2_CK/ADC12_IN4", 15 PA5 (io) "PA5/SPI1_SCK/ADC12_IN5", 16 PA6 (io) "PA6/SPI1_MISO/ADC12_IN6/TIM3_CH1/TIM1_BKIN", 17 PA7 (io) "PA7/SPI1_MOSI/ADC12_IN7/TIM3_CH2/TIM1_CH1N", 18 PB0 (io) "PB0/ADC12_IN8/TIM3_CH3/TIM1_CH2N", 19 PB1 (io) "PB1/ADC12_IN9/TIM3_CH4/TIM1_CH3N", 20 PB2 (io) "PB2/BOOT1", 21 PB10 (io) "PB10/I2C2_SCL/USART3_TX/TIM2_CH3", 22 PB11 (io) "PB11/I2C2_SDA/USART3_RX/TIM2_CH4", 25 PB12 (io) "PB12/SPI2_NSS/I2C2_SMBAl/USART3_CK/TIM1_BKIN", 26 PB13 (io) "PB13/SPI2_SCK/USART3_CTS/TIM1_CH1N", 27 PB14 (io) "PB14/SPI2_MISO/USART3_RTS/TIM1_CH2N", 28 PB15 (io) "PB15/SPI2_MOSI/TIM1_CH3N", 29 PA8 (io) "PA8/USART1_CK/TIM1_CH1/MCO", 30 PA9 (io) "PA9/USART1_TX/TIM1_CH2", 31 PA10 (io) "PA10/USART1_RX/TIM1_CH3", 32 PA11 (io) "PA11/USART1_CTS/CANRX/USBDM/TIM1_CH4", 33 PA12 (io) "PA12/USART1_RTS/CANTX/USBDP/TIM1_ETR", 34 PA13 (io) "PA13/JTMS/SWDIO", 37 PA14 (io) "PA14/JTCK/SWCLK", 38 PA15 (io) "PA15/JTDI/TIM2_CH1_ETR/SPI1_NSS", 39 PB3 (io) "PB3/JTDO/TIM2_CH2/TRACESWO/SPI1_SCK", 40 PB4 (io) "PB4/NJTRST/TIM3_CH1/SPI1_MISO", 41 PB5 (io) "PB5/I2C1_SMBAI/TIM3_CH2/SPI1_MOSI", 42 PB6 (io) "PB6/I2C1_SCL/TIM4_CH1/USART1_TX", 43 PB7 (io) "PB7/I2C1_SDA/TIM4_CH2/USART1_RX", 44 BOOT0 (in), 45 PB8 (io) "PB8/TIM4_CH3/I2C1_SCL/CANRX", 46 PB9 (io) "PB9/TIM4_CH4/I2C1_SDA/CANTX"
part B pins: 1 VBAT (power), 8 VSSA (power), 9 VDDA (power), 23 VSS_1 (power), 24 VDD_1 (power), 35 VSS_2 (power), 36 VDD_2 (power), 47 VSS_3 (power), 48 VDD_3 (power)